# Altium schematic symbol library mcu_stm32.SchLib: 42 symbols (part 1 of 5)
Pins are listed as number, name and electrical type; pins without a type are passive.

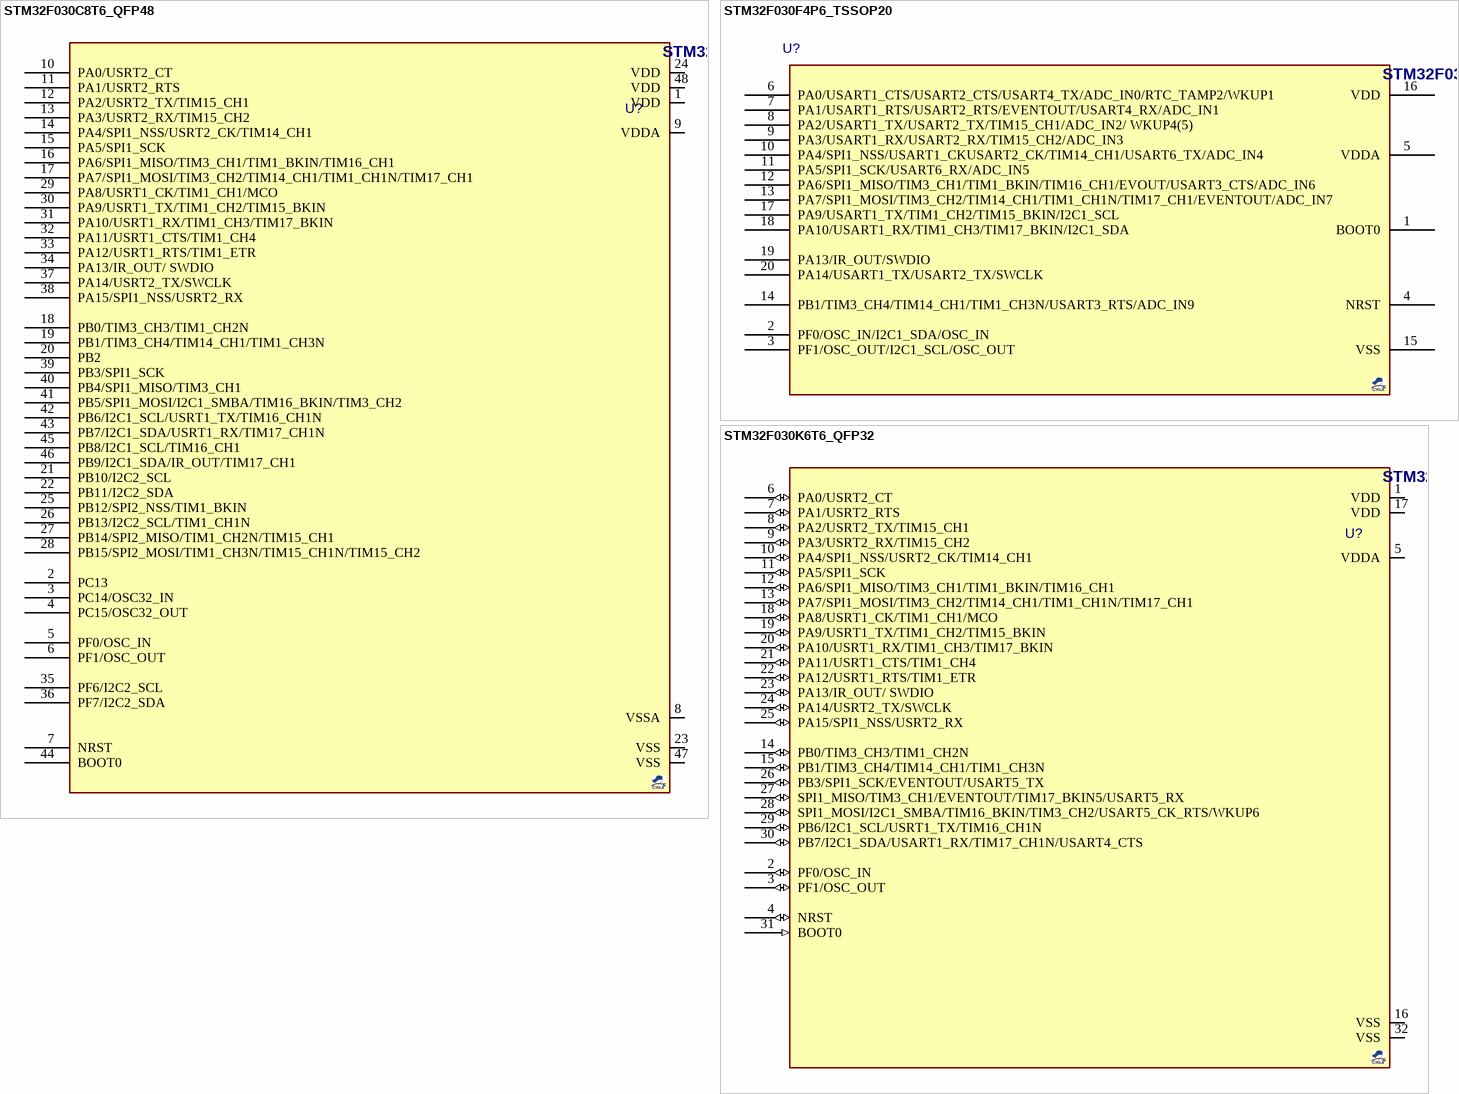
[diagram p0: symbols STM32F030C8T6_QFP48 to STM32F030K6T6_QFP32]

## STM32F030C8T6_QFP48
designator U?, comment STM32F030  (value not drawn)
MCU, STM32 ARM 32-bit, Cortex-M0, 64 KB Flash, 8 KB RAM, 39 I/Os, LQFP-48; MANF: ST; MANF_P#: STM32F030C8T6; PARAM: 64KB FLASH, 8KB SRAM, -40~85oC; PACKAGE: QFP-48; VALUE: STM32F030
footprint QFG50_48 (LQFP48, PQFF, PQFG, TSQFP, 48-Leads, Body 7.00x7.00mm, Pitch 0.50mm)
pins: 1 VDD "Digital power supply", 2 PC13 "PC13/RTC_TAMP1,RTC_TS,RTC_OUT,WKUP2", 3 PC14/OSC32_IN "PC14-OSC32_IN(PC14)/OSC32_IN", 4 PC15/OSC32_OUT "PC15-OSC32_OUT(PC15)/OSC32_OUT", 5 PF0/OSC_IN "PF0-OSC_IN(PF0)/OSC_IN", 6 PF1/OSC_OUT "PF1-OSC_OUT(PF1)/OSC_OUT", 7 NRST "Device reset input / internal reset output (active low)", 8 VSSA "Analog ground", 9 VDDA "Analog power supply", 10 PA0/USRT2_CT "PA0/USART2_CTS/ADC_IN0,RTC_TAMP2,WKUP1", 11 PA1/USRT2_RTS "PA1/USART2_RTS,EVENTOUT/ADC_IN1", 12 PA2/USRT2_TX/TIM15_CH1 "PA2/USART2_TX,TIM15_CH1/ADC_IN2", 13 PA3/USRT2_RX/TIM15_CH2 "PA3/USART2_RX,TIM15_CH2/ADC_IN3", 14 PA4/SPI1_NSS/USRT2_CK/TIM14_CH1 "PA4/SPI1_NSS/USART2_CK,TIM14_CH1/ADC_IN4", 15 PA5/SPI1_SCK "PA5/SPI1_SCK/ADC_IN5", 16 PA6/SPI1_MISO/TIM3_CH1/TIM1_BKIN/TIM16_CH1 "PA6/SPI1_MISO,TIM3_CH1,TIM1_BKIN,TIM16_CH1,EVENTOUT/ADC_IN6", 17 PA7/SPI1_MOSI/TIM3_CH2/TIM14_CH1/TIM1_CH1N/TIM17_CH1, 18 PB0/TIM3_CH3/TIM1_CH2N "PB0/TIM3_CH3,TIM1_CH2N,EVENTOUT/ADC_IN8", 19 PB1/TIM3_CH4/TIM14_CH1/TIM1_CH3N "PB1/TIM3_CH4,TIM14_CH1,TIM1_CH3N/ADC_IN9", 20 PB2, 21 PB10/I2C2_SCL, 22 PB11/I2C2_SDA "PB11/I2C2_SDA,EVENTOUT", 23 VSS "Ground", 24 VDD "Digital power supply", 25 PB12/SPI2_NSS/TIM1_BKIN "PB12/SPI2_NSS,TIM1_BKIN,EVENTOUT", 26 PB13/I2C2_SCL/TIM1_CH1N "PB13/SPI2_SCK,TIM1_CH1N", 27 PB14/SPI2_MISO/TIM1_CH2N/TIM15_CH1 "PB14/SPI2_MISO,TIM1_CH2N,TIM15_CH1", 28 PB15/SPI2_MOSI/TIM1_CH3N/TIM15_CH1N/TIM15_CH2 "PB15/SPI2_MOSI,TIM1_CH3N,TIM15_CH1N,TIM15_CH2/RTC_REFIN", 29 PA8/USRT1_CK/TIM1_CH1/MCO "PA8/USART1_CK,TIM1_CH1,EVENTOUT,MCO", 30 PA9/USRT1_TX/TIM1_CH2/TIM15_BKIN "PA9/USART1_TX,TIM1_CH2,TIM15_BKIN", 31 PA10/USRT1_RX/TIM1_CH3/TIM17_BKIN "PA10/USART1_RX,TIM1_CH3,TIM17_BKIN", 32 PA11/USRT1_CTS/TIM1_CH4 "PA11/USART1_CTS,TIM1_CH4,EVENTOUT", 33 PA12/USRT1_RTS/TIM1_ETR "PA12/USART1_RTS,TIM1_ETR,EVENTOUT", 34 PA13/IR_OUT/ SWDIO "PA13(SWDIO)/IR_OUT,SWDIO", 35 PF6/I2C2_SCL, 36 PF7/I2C2_SDA, 37 PA14/USRT2_TX/SWCLK "PA14(SWCLK)/USART2_TX,SWCLK", 38 PA15/SPI1_NSS/USRT2_RX "PA15/SPI1_NSS,USART2_RX,EVENTOUT", 39 PB3/SPI1_SCK "PB3/SPI1_SCK,EVENTOUT", 40 PB4/SPI1_MISO/TIM3_CH1 "PB4/SPI1_MISO,TIM3_CH1,EVENTOUT", 41 PB5/SPI1_MOSI/I2C1_SMBA/TIM16_BKIN/TIM3_CH2 "PB5/SPI1_MOSI,I2C1_SMBA,TIM16_BKIN,TIM3_CH2", 42 PB6/I2C1_SCL/USRT1_TX/TIM16_CH1N "PB6/I2C1_SCL,USART1_TX,TIM16_CH1N", 43 PB7/I2C1_SDA/USRT1_RX/TIM17_CH1N "PB7/I2C1_SDA,USART1_RX,TIM17_CH1N", 44 BOOT0 "Boot memory selection", 45 PB8/I2C1_SCL/TIM16_CH1 "PB8/I2C1_SCL,TIM16_CH1", 46 PB9/I2C1_SDA/IR_OUT/TIM17_CH1 "PB9/I2C1_SDA,IR_OUT,TIM17_CH1,EVENTOUT", 47 VSS "Ground", 48 VDD "Digital power supply"
text: STM32F030 LQFP-48

## STM32F030F4P6_TSSOP20
designator U?, comment STM32F030  (value not drawn)
MCU, STM32 ARM 32-bit, Cortex-M0, 16KB FLASH, 4KB SRAM; DESC: I2C, SPI, UART; MANF: ST; MANF_P#: STM32F030F4P6; PARAM2: 2.4~3.6VCC, 48MHz, 1X12Bit ADC; PARAM: 16KB FLASH, 4KB SRAM, -40~85oC; PRICE: 1$; VALUE: STM32F030; PACKAGE: TSSOP-20
footprint SOG65_20 (PW TSSOP (TI), MO-153-AC (JEDEC), 20Lead, pitch: 0.65mm, 6.5x4.4x1.2mm)
pins: 1 BOOT0, 2 PF0/OSC_IN/I2C1_SDA/OSC_IN, 3 PF1/OSC_OUT/I2C1_SCL/OSC_OUT, 4 NRST, 5 VDDA, 6 PA0/USART1_CTS/USART2_CTS/USART4_TX/ADC_IN0/RTC_TAMP2/WKUP1, 7 PA1/USART1_RTS/USART2_RTS/EVENTOUT/USART4_RX/ADC_IN1, 8 PA2/USART1_TX/USART2_TX/TIM15_CH1/ADC_IN2/ WKUP4(5), 9 PA3/USART1_RX/USART2_RX/TIM15_CH2/ADC_IN3, 10 PA4/SPI1_NSS/USART1_CKUSART2_CK/TIM14_CH1/USART6_TX/ADC_IN4, 11 PA5/SPI1_SCK/USART6_RX/ADC_IN5, 12 PA6/SPI1_MISO/TIM3_CH1/TIM1_BKIN/TIM16_CH1/EVOUT/USART3_CTS/ADC_IN6, 13 PA7/SPI1_MOSI/TIM3_CH2/TIM14_CH1/TIM1_CH1N/TIM17_CH1/EVENTOUT/ADC_IN7, 14 PB1/TIM3_CH4/TIM14_CH1/TIM1_CH3N/USART3_RTS/ADC_IN9, 15 VSS, 16 VDD, 17 PA9/USART1_TX/TIM1_CH2/TIM15_BKIN/I2C1_SCL, 18 PA10/USART1_RX/TIM1_CH3/TIM17_BKIN/I2C1_SDA, 19 PA13/IR_OUT/SWDIO, 20 PA14/USART1_TX/USART2_TX/SWCLK
text: STM32F030 TSSOP-20

## STM32F030K6T6_QFP32
designator U?, comment STM32F030  (value not drawn)
MCU, STM32 ARM 32-bit, Cortex-M0, 64 KB Flash, 8 KB RAM; MANF: ST; MANF_P#: STM32F030K6T6; PARAM: 64KB FLASH, 8KB SRAM, -40~85oC; VALUE: STM32F030; PACKAGE: QFP-32
footprint QFG80_32 (TQFP32, A32 (Cypress), GP32 (Zarlink), MS-026ABA(JEDEC), 7X7mm, 0.8mm)
pins: 1 VDD (power), 2 PF0/OSC_IN (io), 3 PF1/OSC_OUT (io), 4 NRST (io), 5 VDDA (power), 6 PA0/USRT2_CT (io), 7 PA1/USRT2_RTS (io), 8 PA2/USRT2_TX/TIM15_CH1 (io), 9 PA3/USRT2_RX/TIM15_CH2 (io), 10 PA4/SPI1_NSS/USRT2_CK/TIM14_CH1 (io), 11 PA5/SPI1_SCK (io), 12 PA6/SPI1_MISO/TIM3_CH1/TIM1_BKIN/TIM16_CH1 (io), 13 PA7/SPI1_MOSI/TIM3_CH2/TIM14_CH1/TIM1_CH1N/TIM17_CH1 (io), 14 PB0/TIM3_CH3/TIM1_CH2N (io), 15 PB1/TIM3_CH4/TIM14_CH1/TIM1_CH3N (io), 16 VSS (power), 17 VDD (power), 18 PA8/USRT1_CK/TIM1_CH1/MCO (io), 19 PA9/USRT1_TX/TIM1_CH2/TIM15_BKIN (io), 20 PA10/USRT1_RX/TIM1_CH3/TIM17_BKIN (io), 21 PA11/USRT1_CTS/TIM1_CH4 (io), 22 PA12/USRT1_RTS/TIM1_ETR (io), 23 PA13/IR_OUT/ SWDIO (io), 24 PA14/USRT2_TX/SWCLK (io), 25 PA15/SPI1_NSS/USRT2_RX (io), 26 PB3/SPI1_SCK/EVENTOUT/USART5_TX (io), 27 SPI1_MISO/TIM3_CH1/EVENTOUT/TIM17_BKIN5/USART5_RX (io), 28 SPI1_MOSI/I2C1_SMBA/TIM16_BKIN/TIM3_CH2/USART5_CK_RTS/WKUP6 (io), 29 PB6/I2C1_SCL/USRT1_TX/TIM16_CH1N (io), 30 PB7/I2C1_SDA/USART1_RX/TIM17_CH1N/USART4_CTS (io), 31 BOOT0 (in), 32 VSS (power)
text: STM32F030 LQFP-32

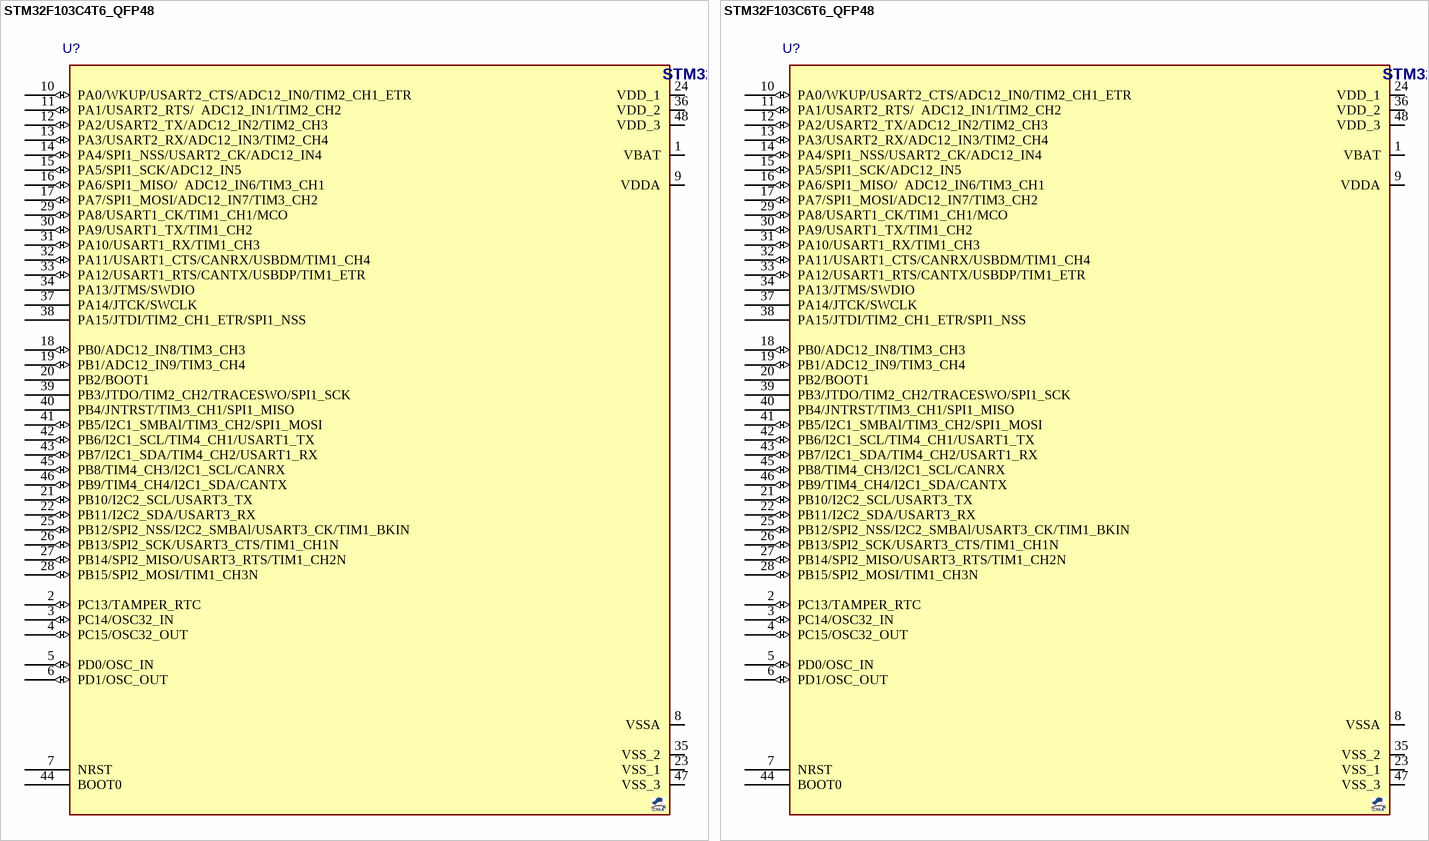
[diagram p1: symbols STM32F103C4T6_QFP48 to STM32F103C6T6_QFP48]

## STM32F103C4T6_QFP48
designator U?, comment STM32F103  (value not drawn)
MCU, STM32 ARM 32-bit, Cortex M3, 16KB FLASH, 6KB SRAM; DESC: CAN, I2C, SPI, USART, USB; MANF: ST; MANF_P#: STM32F103C4T6A; PARAM2: 2~3.6VCC, 72MHz, 2X12Bit ADC; PARAM: 16KB FLASH, 6KB SRAM, -40~85oC; PRICE: 4$; VALUE: STM32F103; PACKAGE: QFP-48
footprint QFG50_48 (LQFP48, PQFF, PQFG, TSQFP, 48-Leads, Body 7.00x7.00mm, Pitch 0.50mm)
pins: 1 VBAT, 2 PC13/TAMPER_RTC (io) "PC13-TAMPER-RTC/PC13/TAMPER-RTC", 3 PC14/OSC32_IN (io) "PC14-OSC32_IN/PC14/OSC32_IN", 4 PC15/OSC32_OUT (io) "PC15-OSC32_OUT/PC15/OSC32_OUT", 5 PD0/OSC_IN (io) "PD0/OSC_IN/CAN_RX", 6 PD1/OSC_OUT (io) "PD1/OSC_OUT/CAN_TX", 7 NRST, 8 VSSA, 9 VDDA, 10 PA0/WKUP/USART2_CTS/ADC12_IN0/TIM2_CH1_ETR (io) "PA0-WKUP/PA0/WKUP/USART2_CTS/ADC12_IN0/TIM2_CH1_ETR", 11 PA1/USART2_RTS/  ADC12_IN1/TIM2_CH2 (io) "PA1/USART2_RTS/ADC12_IN1/TIM2_CH2", 12 PA2/USART2_TX/ADC12_IN2/TIM2_CH3 (io), 13 PA3/USART2_RX/ADC12_IN3/TIM2_CH4 (io), 14 PA4/SPI1_NSS/USART2_CK/ADC12_IN4 (io), 15 PA5/SPI1_SCK/ADC12_IN5 (io), 16 PA6/SPI1_MISO/  ADC12_IN6/TIM3_CH1 (io) "PA6/SPI1_MISO/ADC12_IN6/TIM3_CH1/TIM1_BKIN", 17 PA7/SPI1_MOSI/ADC12_IN7/TIM3_CH2 (io) "PA7/SPI1_MOSI/ADC12_IN7/TIM3_CH2/TIM1_CH1N", 18 PB0/ADC12_IN8/TIM3_CH3 (io) "PB0/ADC12_IN8/TIM3_CH3/TIM1_CH2N", 19 PB1/ADC12_IN9/TIM3_CH4 (io) "PB1/ADC12_IN9/TIM3_CH4/TIM1_CH3N", 20 PB2/BOOT1, 21 PB10/I2C2_SCL/USART3_TX (io) "PB10/I2C2_SCL/USART3_TX/TIM2_CH3", 22 PB11/I2C2_SDA/USART3_RX (io) "PB11/I2C2_SDA/USART3_RX/TIM2_CH4", 23 VSS_1, 24 VDD_1, 25 PB12/SPI2_NSS/I2C2_SMBAl/USART3_CK/TIM1_BKIN (io), 26 PB13/SPI2_SCK/USART3_CTS/TIM1_CH1N (io), 27 PB14/SPI2_MISO/USART3_RTS/TIM1_CH2N (io), 28 PB15/SPI2_MOSI/TIM1_CH3N (io), 29 PA8/USART1_CK/TIM1_CH1/MCO (io), 30 PA9/USART1_TX/TIM1_CH2 (io), 31 PA10/USART1_RX/TIM1_CH3 (io), 32 PA11/USART1_CTS/CANRX/USBDM/TIM1_CH4 (io), 33 PA12/USART1_RTS/CANTX/USBDP/TIM1_ETR (io), 34 PA13/JTMS/SWDIO, 35 VSS_2, 36 VDD_2, 37 PA14/JTCK/SWCLK, 38 PA15/JTDI/TIM2_CH1_ETR/SPI1_NSS, 39 PB3/JTDO/TIM2_CH2/TRACESWO/SPI1_SCK, 40 PB4/JNTRST/TIM3_CH1/SPI1_MISO, 41 PB5/I2C1_SMBAl/TIM3_CH2/SPI1_MOSI (io) "PB5/I2C1_SMBAI/TIM3_CH2/SPI1_MOSI", 42 PB6/I2C1_SCL/TIM4_CH1/USART1_TX (io), 43 PB7/I2C1_SDA/TIM4_CH2/USART1_RX (io), 44 BOOT0, 45 PB8/TIM4_CH3/I2C1_SCL/CANRX (io), 46 PB9/TIM4_CH4/I2C1_SDA/CANTX (io), 47 VSS_3, 48 VDD_3

## STM32F103C6T6_QFP48
designator U?, comment STM32F103  (value not drawn)
MCU, STM32 ARM 32-bit, Cortex M3, 32KB FLASH, 10KB SRAM; DESC: CAN, I2C, SPI, USART, USB; MANF: ST; MANF_P#: STM32F103C6T6A; PARAM2: 2~3.6VCC, 72MHz, 2X12Bit ADC; PARAM: 32KB FLASH, 10KB SRAM, -40~85oC; PRICE: 4$; VALUE: STM32F103; PACKAGE: QFP-48
footprint QFG50_48 (LQFP48, PQFF, PQFG, TSQFP, 48-Leads, Body 7.00x7.00mm, Pitch 0.50mm)
pins: 1 VBAT, 2 PC13/TAMPER_RTC (io) "PC13-TAMPER-RTC/PC13/TAMPER-RTC", 3 PC14/OSC32_IN (io) "PC14-OSC32_IN/PC14/OSC32_IN", 4 PC15/OSC32_OUT (io) "PC15-OSC32_OUT/PC15/OSC32_OUT", 5 PD0/OSC_IN (io) "PD0/OSC_IN/CAN_RX", 6 PD1/OSC_OUT (io) "PD1/OSC_OUT/CAN_TX", 7 NRST, 8 VSSA, 9 VDDA, 10 PA0/WKUP/USART2_CTS/ADC12_IN0/TIM2_CH1_ETR (io) "PA0-WKUP/PA0/WKUP/USART2_CTS/ADC12_IN0/TIM2_CH1_ETR", 11 PA1/USART2_RTS/  ADC12_IN1/TIM2_CH2 (io) "PA1/USART2_RTS/ADC12_IN1/TIM2_CH2", 12 PA2/USART2_TX/ADC12_IN2/TIM2_CH3 (io), 13 PA3/USART2_RX/ADC12_IN3/TIM2_CH4 (io), 14 PA4/SPI1_NSS/USART2_CK/ADC12_IN4 (io), 15 PA5/SPI1_SCK/ADC12_IN5 (io), 16 PA6/SPI1_MISO/  ADC12_IN6/TIM3_CH1 (io) "PA6/SPI1_MISO/ADC12_IN6/TIM3_CH1/TIM1_BKIN", 17 PA7/SPI1_MOSI/ADC12_IN7/TIM3_CH2 (io) "PA7/SPI1_MOSI/ADC12_IN7/TIM3_CH2/TIM1_CH1N", 18 PB0/ADC12_IN8/TIM3_CH3 (io) "PB0/ADC12_IN8/TIM3_CH3/TIM1_CH2N", 19 PB1/ADC12_IN9/TIM3_CH4 (io) "PB1/ADC12_IN9/TIM3_CH4/TIM1_CH3N", 20 PB2/BOOT1, 21 PB10/I2C2_SCL/USART3_TX (io) "PB10/I2C2_SCL/USART3_TX/TIM2_CH3", 22 PB11/I2C2_SDA/USART3_RX (io) "PB11/I2C2_SDA/USART3_RX/TIM2_CH4", 23 VSS_1, 24 VDD_1, 25 PB12/SPI2_NSS/I2C2_SMBAl/USART3_CK/TIM1_BKIN (io), 26 PB13/SPI2_SCK/USART3_CTS/TIM1_CH1N (io), 27 PB14/SPI2_MISO/USART3_RTS/TIM1_CH2N (io), 28 PB15/SPI2_MOSI/TIM1_CH3N (io), 29 PA8/USART1_CK/TIM1_CH1/MCO (io), 30 PA9/USART1_TX/TIM1_CH2 (io), 31 PA10/USART1_RX/TIM1_CH3 (io), 32 PA11/USART1_CTS/CANRX/USBDM/TIM1_CH4 (io), 33 PA12/USART1_RTS/CANTX/USBDP/TIM1_ETR (io), 34 PA13/JTMS/SWDIO, 35 VSS_2, 36 VDD_2, 37 PA14/JTCK/SWCLK, 38 PA15/JTDI/TIM2_CH1_ETR/SPI1_NSS, 39 PB3/JTDO/TIM2_CH2/TRACESWO/SPI1_SCK, 40 PB4/JNTRST/TIM3_CH1/SPI1_MISO, 41 PB5/I2C1_SMBAl/TIM3_CH2/SPI1_MOSI (io) "PB5/I2C1_SMBAI/TIM3_CH2/SPI1_MOSI", 42 PB6/I2C1_SCL/TIM4_CH1/USART1_TX (io), 43 PB7/I2C1_SDA/TIM4_CH2/USART1_RX (io), 44 BOOT0, 45 PB8/TIM4_CH3/I2C1_SCL/CANRX (io), 46 PB9/TIM4_CH4/I2C1_SDA/CANTX (io), 47 VSS_3, 48 VDD_3

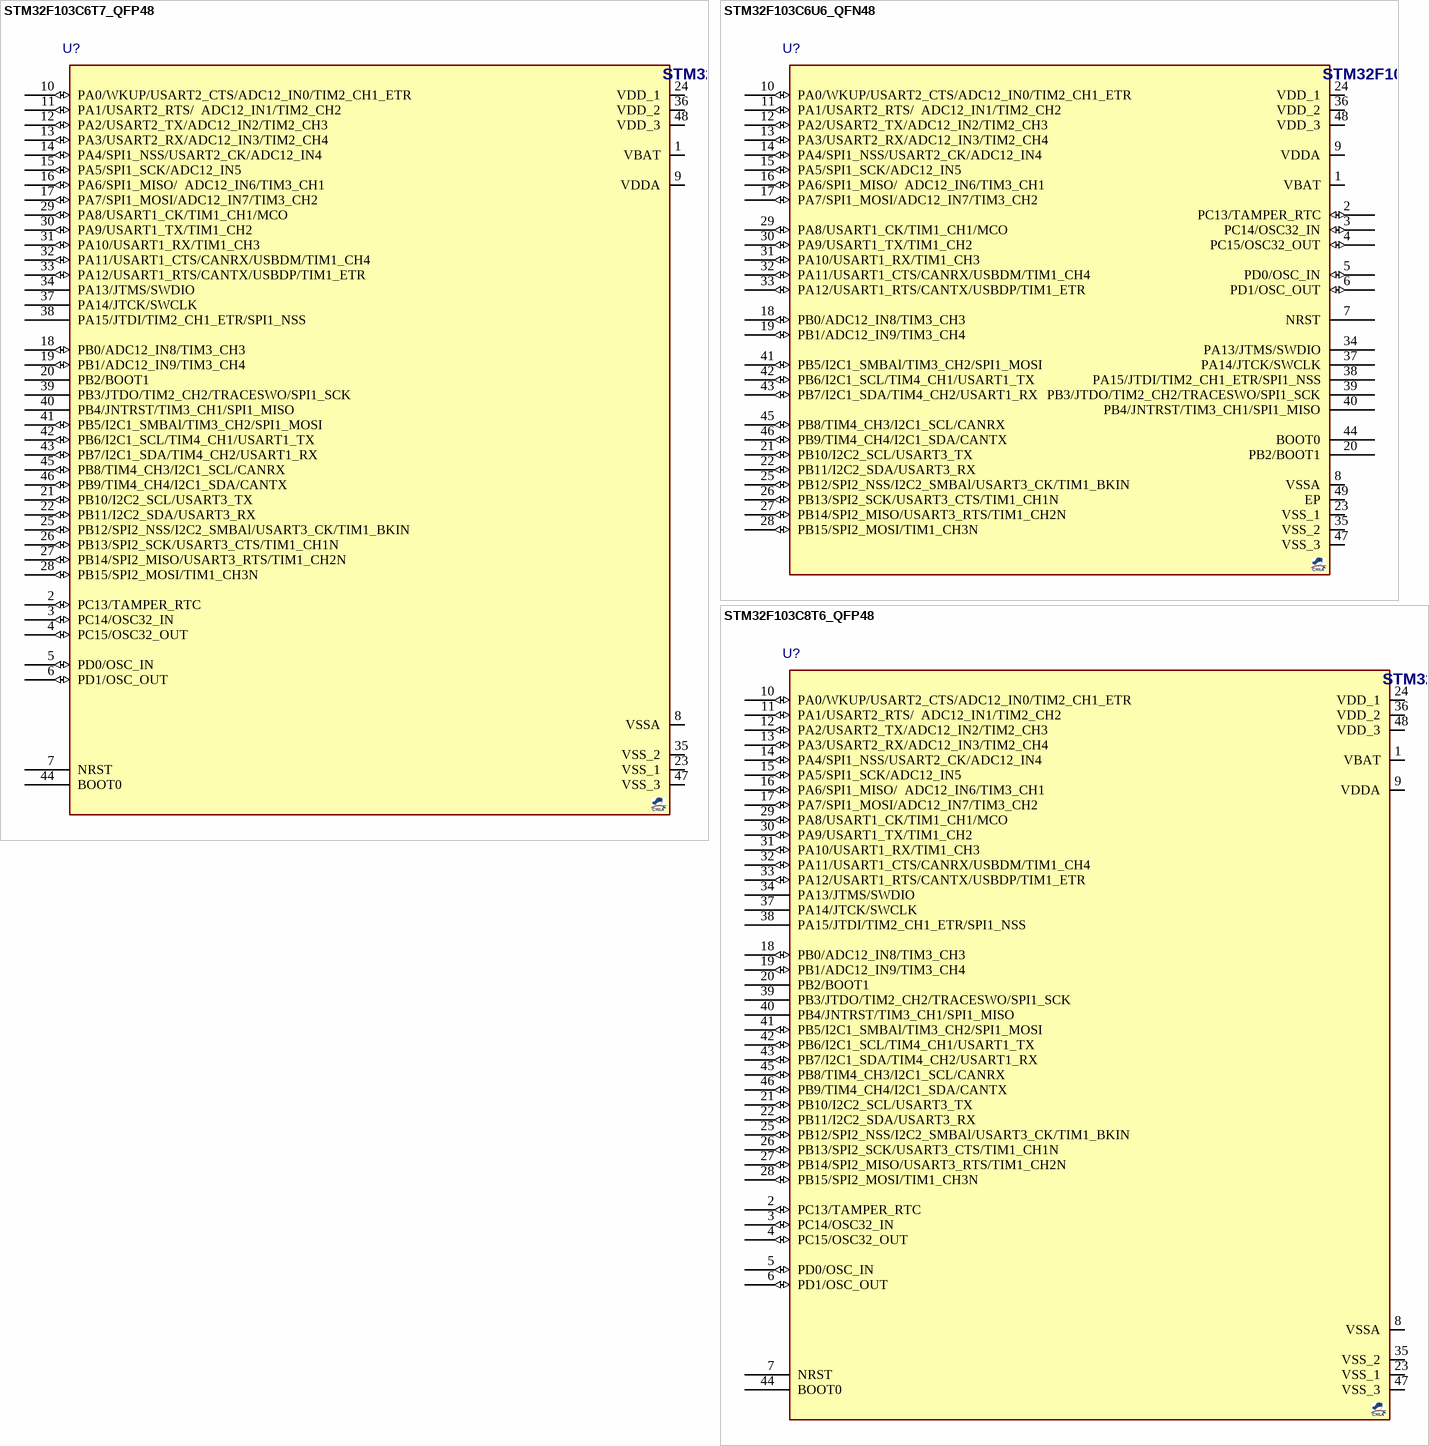
[diagram p2: symbols STM32F103C6T7_QFP48 to STM32F103C8T6_QFP48]

## STM32F103C6T7_QFP48
designator U?, comment STM32F103  (value not drawn)
MCU, STM32 ARM 32-bit, Cortex M3, 32KB FLASH, 10KB SRAM; DESC: CAN, I2C, SPI, USART, USB; MANF: ST; MANF_P#: STM32F103C6T7A; PARAM2: 2~3.6VCC, 72MHz, 2X12Bit ADC; PARAM: 32KB FLASH, 10KB SRAM, -40~105oC; PRICE: 6$; VALUE: STM32F103; PACKAGE: QFP-48
footprint QFG50_48 (LQFP48, PQFF, PQFG, TSQFP, 48-Leads, Body 7.00x7.00mm, Pitch 0.50mm)
pins: 1 VBAT, 2 PC13/TAMPER_RTC (io) "PC13-TAMPER-RTC/PC13/TAMPER-RTC", 3 PC14/OSC32_IN (io) "PC14-OSC32_IN/PC14/OSC32_IN", 4 PC15/OSC32_OUT (io) "PC15-OSC32_OUT/PC15/OSC32_OUT", 5 PD0/OSC_IN (io) "PD0/OSC_IN/CAN_RX", 6 PD1/OSC_OUT (io) "PD1/OSC_OUT/CAN_TX", 7 NRST, 8 VSSA, 9 VDDA, 10 PA0/WKUP/USART2_CTS/ADC12_IN0/TIM2_CH1_ETR (io) "PA0-WKUP/PA0/WKUP/USART2_CTS/ADC12_IN0/TIM2_CH1_ETR", 11 PA1/USART2_RTS/  ADC12_IN1/TIM2_CH2 (io) "PA1/USART2_RTS/ADC12_IN1/TIM2_CH2", 12 PA2/USART2_TX/ADC12_IN2/TIM2_CH3 (io), 13 PA3/USART2_RX/ADC12_IN3/TIM2_CH4 (io), 14 PA4/SPI1_NSS/USART2_CK/ADC12_IN4 (io), 15 PA5/SPI1_SCK/ADC12_IN5 (io), 16 PA6/SPI1_MISO/  ADC12_IN6/TIM3_CH1 (io) "PA6/SPI1_MISO/ADC12_IN6/TIM3_CH1/TIM1_BKIN", 17 PA7/SPI1_MOSI/ADC12_IN7/TIM3_CH2 (io) "PA7/SPI1_MOSI/ADC12_IN7/TIM3_CH2/TIM1_CH1N", 18 PB0/ADC12_IN8/TIM3_CH3 (io) "PB0/ADC12_IN8/TIM3_CH3/TIM1_CH2N", 19 PB1/ADC12_IN9/TIM3_CH4 (io) "PB1/ADC12_IN9/TIM3_CH4/TIM1_CH3N", 20 PB2/BOOT1, 21 PB10/I2C2_SCL/USART3_TX (io) "PB10/I2C2_SCL/USART3_TX/TIM2_CH3", 22 PB11/I2C2_SDA/USART3_RX (io) "PB11/I2C2_SDA/USART3_RX/TIM2_CH4", 23 VSS_1, 24 VDD_1, 25 PB12/SPI2_NSS/I2C2_SMBAl/USART3_CK/TIM1_BKIN (io), 26 PB13/SPI2_SCK/USART3_CTS/TIM1_CH1N (io), 27 PB14/SPI2_MISO/USART3_RTS/TIM1_CH2N (io), 28 PB15/SPI2_MOSI/TIM1_CH3N (io), 29 PA8/USART1_CK/TIM1_CH1/MCO (io), 30 PA9/USART1_TX/TIM1_CH2 (io), 31 PA10/USART1_RX/TIM1_CH3 (io), 32 PA11/USART1_CTS/CANRX/USBDM/TIM1_CH4 (io), 33 PA12/USART1_RTS/CANTX/USBDP/TIM1_ETR (io), 34 PA13/JTMS/SWDIO, 35 VSS_2, 36 VDD_2, 37 PA14/JTCK/SWCLK, 38 PA15/JTDI/TIM2_CH1_ETR/SPI1_NSS, 39 PB3/JTDO/TIM2_CH2/TRACESWO/SPI1_SCK, 40 PB4/JNTRST/TIM3_CH1/SPI1_MISO, 41 PB5/I2C1_SMBAl/TIM3_CH2/SPI1_MOSI (io) "PB5/I2C1_SMBAI/TIM3_CH2/SPI1_MOSI", 42 PB6/I2C1_SCL/TIM4_CH1/USART1_TX (io), 43 PB7/I2C1_SDA/TIM4_CH2/USART1_RX (io), 44 BOOT0, 45 PB8/TIM4_CH3/I2C1_SCL/CANRX (io), 46 PB9/TIM4_CH4/I2C1_SDA/CANTX (io), 47 VSS_3, 48 VDD_3

## STM32F103C6U6_QFN48
designator U?, comment STM32F103  (value not drawn)
MCU, STM32 ARM 32-bit, Cortex M3, 16KB FLASH, 6KB SRAM; DESC: CAN, I2C, SPI, USART, USB; MANF: ST; MANF_P#: STM32F103C6U6; PARAM2: 2~3.6VCC, 72MHz, 2X12Bit ADC; PARAM: 16KB FLASH, 6KB SRAM, -40~85oC; PRICE: 2$; VALUE: STM32F103; PACKAGE: QFN-48
footprint QFN50_48T (CP-48 (Analog Device),, MO-220-VKKD-2(JEDEC), RGZ S-PQFP-N48, S-PWQFN-N48(TI), 7X7mm, 0.5mm)
pins: 1 VBAT, 2 PC13/TAMPER_RTC (io) "PC13-TAMPER-RTC/PC13/TAMPER-RTC", 3 PC14/OSC32_IN (io) "PC14-OSC32_IN/PC14/OSC32_IN", 4 PC15/OSC32_OUT (io) "PC15-OSC32_OUT/PC15/OSC32_OUT", 5 PD0/OSC_IN (io) "PD0/OSC_IN/CAN_RX", 6 PD1/OSC_OUT (io) "PD1/OSC_OUT/CAN_TX", 7 NRST, 8 VSSA, 9 VDDA, 10 PA0/WKUP/USART2_CTS/ADC12_IN0/TIM2_CH1_ETR (io) "PA0-WKUP/PA0/WKUP/USART2_CTS/ADC12_IN0/TIM2_CH1_ETR", 11 PA1/USART2_RTS/  ADC12_IN1/TIM2_CH2 (io) "PA1/USART2_RTS/ADC12_IN1/TIM2_CH2", 12 PA2/USART2_TX/ADC12_IN2/TIM2_CH3 (io), 13 PA3/USART2_RX/ADC12_IN3/TIM2_CH4 (io), 14 PA4/SPI1_NSS/USART2_CK/ADC12_IN4 (io), 15 PA5/SPI1_SCK/ADC12_IN5 (io), 16 PA6/SPI1_MISO/  ADC12_IN6/TIM3_CH1 (io) "PA6/SPI1_MISO/ADC12_IN6/TIM3_CH1/TIM1_BKIN", 17 PA7/SPI1_MOSI/ADC12_IN7/TIM3_CH2 (io) "PA7/SPI1_MOSI/ADC12_IN7/TIM3_CH2/TIM1_CH1N", 18 PB0/ADC12_IN8/TIM3_CH3 (io) "PB0/ADC12_IN8/TIM3_CH3/TIM1_CH2N", 19 PB1/ADC12_IN9/TIM3_CH4 (io) "PB1/ADC12_IN9/TIM3_CH4/TIM1_CH3N", 20 PB2/BOOT1, 21 PB10/I2C2_SCL/USART3_TX (io) "PB10/I2C2_SCL/USART3_TX/TIM2_CH3", 22 PB11/I2C2_SDA/USART3_RX (io) "PB11/I2C2_SDA/USART3_RX/TIM2_CH4", 23 VSS_1, 24 VDD_1, 25 PB12/SPI2_NSS/I2C2_SMBAl/USART3_CK/TIM1_BKIN (io), 26 PB13/SPI2_SCK/USART3_CTS/TIM1_CH1N (io), 27 PB14/SPI2_MISO/USART3_RTS/TIM1_CH2N (io), 28 PB15/SPI2_MOSI/TIM1_CH3N (io), 29 PA8/USART1_CK/TIM1_CH1/MCO (io), 30 PA9/USART1_TX/TIM1_CH2 (io), 31 PA10/USART1_RX/TIM1_CH3 (io), 32 PA11/USART1_CTS/CANRX/USBDM/TIM1_CH4 (io), 33 PA12/USART1_RTS/CANTX/USBDP/TIM1_ETR (io), 34 PA13/JTMS/SWDIO, 35 VSS_2, 36 VDD_2, 37 PA14/JTCK/SWCLK, 38 PA15/JTDI/TIM2_CH1_ETR/SPI1_NSS, 39 PB3/JTDO/TIM2_CH2/TRACESWO/SPI1_SCK, 40 PB4/JNTRST/TIM3_CH1/SPI1_MISO, 41 PB5/I2C1_SMBAl/TIM3_CH2/SPI1_MOSI (io) "PB5/I2C1_SMBAI/TIM3_CH2/SPI1_MOSI", 42 PB6/I2C1_SCL/TIM4_CH1/USART1_TX (io), 43 PB7/I2C1_SDA/TIM4_CH2/USART1_RX (io), 44 BOOT0, 45 PB8/TIM4_CH3/I2C1_SCL/CANRX (io), 46 PB9/TIM4_CH4/I2C1_SDA/CANTX (io), 47 VSS_3, 48 VDD_3, 49 EP

## STM32F103C8T6_QFP48
designator U?, comment STM32F103  (value not drawn)
MCU, STM32 ARM 32-bit, Cortex M3, 64KB FLASH, 20KB SRAM; DESC: CAN, I2C, SPI, USART, USB; MANF: ST; MANF_P#: STM32F103C8T6; PARAM2: 2~3.6VCC, 72MHz, 2X12Bit ADC; PARAM: 64KB FLASH, 20KB SRAM, -40~85oC; PRICE: 6$; VALUE: STM32F103; PACKAGE: QFP-48
footprint QFG50_48 (LQFP48, PQFF, PQFG, TSQFP, 48-Leads, Body 7.00x7.00mm, Pitch 0.50mm)
pins: 1 VBAT, 2 PC13/TAMPER_RTC (io) "PC13-TAMPER-RTC/PC13/TAMPER-RTC", 3 PC14/OSC32_IN (io) "PC14-OSC32_IN/PC14/OSC32_IN", 4 PC15/OSC32_OUT (io) "PC15-OSC32_OUT/PC15/OSC32_OUT", 5 PD0/OSC_IN (io) "PD0/OSC_IN/CAN_RX", 6 PD1/OSC_OUT (io) "PD1/OSC_OUT/CAN_TX", 7 NRST, 8 VSSA, 9 VDDA, 10 PA0/WKUP/USART2_CTS/ADC12_IN0/TIM2_CH1_ETR (io) "PA0-WKUP/PA0/WKUP/USART2_CTS/ADC12_IN0/TIM2_CH1_ETR", 11 PA1/USART2_RTS/  ADC12_IN1/TIM2_CH2 (io) "PA1/USART2_RTS/ADC12_IN1/TIM2_CH2", 12 PA2/USART2_TX/ADC12_IN2/TIM2_CH3 (io), 13 PA3/USART2_RX/ADC12_IN3/TIM2_CH4 (io), 14 PA4/SPI1_NSS/USART2_CK/ADC12_IN4 (io), 15 PA5/SPI1_SCK/ADC12_IN5 (io), 16 PA6/SPI1_MISO/  ADC12_IN6/TIM3_CH1 (io) "PA6/SPI1_MISO/ADC12_IN6/TIM3_CH1/TIM1_BKIN", 17 PA7/SPI1_MOSI/ADC12_IN7/TIM3_CH2 (io) "PA7/SPI1_MOSI/ADC12_IN7/TIM3_CH2/TIM1_CH1N", 18 PB0/ADC12_IN8/TIM3_CH3 (io) "PB0/ADC12_IN8/TIM3_CH3/TIM1_CH2N", 19 PB1/ADC12_IN9/TIM3_CH4 (io) "PB1/ADC12_IN9/TIM3_CH4/TIM1_CH3N", 20 PB2/BOOT1, 21 PB10/I2C2_SCL/USART3_TX (io) "PB10/I2C2_SCL/USART3_TX/TIM2_CH3", 22 PB11/I2C2_SDA/USART3_RX (io) "PB11/I2C2_SDA/USART3_RX/TIM2_CH4", 23 VSS_1, 24 VDD_1, 25 PB12/SPI2_NSS/I2C2_SMBAl/USART3_CK/TIM1_BKIN (io), 26 PB13/SPI2_SCK/USART3_CTS/TIM1_CH1N (io), 27 PB14/SPI2_MISO/USART3_RTS/TIM1_CH2N (io), 28 PB15/SPI2_MOSI/TIM1_CH3N (io), 29 PA8/USART1_CK/TIM1_CH1/MCO (io), 30 PA9/USART1_TX/TIM1_CH2 (io), 31 PA10/USART1_RX/TIM1_CH3 (io), 32 PA11/USART1_CTS/CANRX/USBDM/TIM1_CH4 (io), 33 PA12/USART1_RTS/CANTX/USBDP/TIM1_ETR (io), 34 PA13/JTMS/SWDIO, 35 VSS_2, 36 VDD_2, 37 PA14/JTCK/SWCLK, 38 PA15/JTDI/TIM2_CH1_ETR/SPI1_NSS, 39 PB3/JTDO/TIM2_CH2/TRACESWO/SPI1_SCK, 40 PB4/JNTRST/TIM3_CH1/SPI1_MISO, 41 PB5/I2C1_SMBAl/TIM3_CH2/SPI1_MOSI (io) "PB5/I2C1_SMBAI/TIM3_CH2/SPI1_MOSI", 42 PB6/I2C1_SCL/TIM4_CH1/USART1_TX (io), 43 PB7/I2C1_SDA/TIM4_CH2/USART1_RX (io), 44 BOOT0, 45 PB8/TIM4_CH3/I2C1_SCL/CANRX (io), 46 PB9/TIM4_CH4/I2C1_SDA/CANTX (io), 47 VSS_3, 48 VDD_3

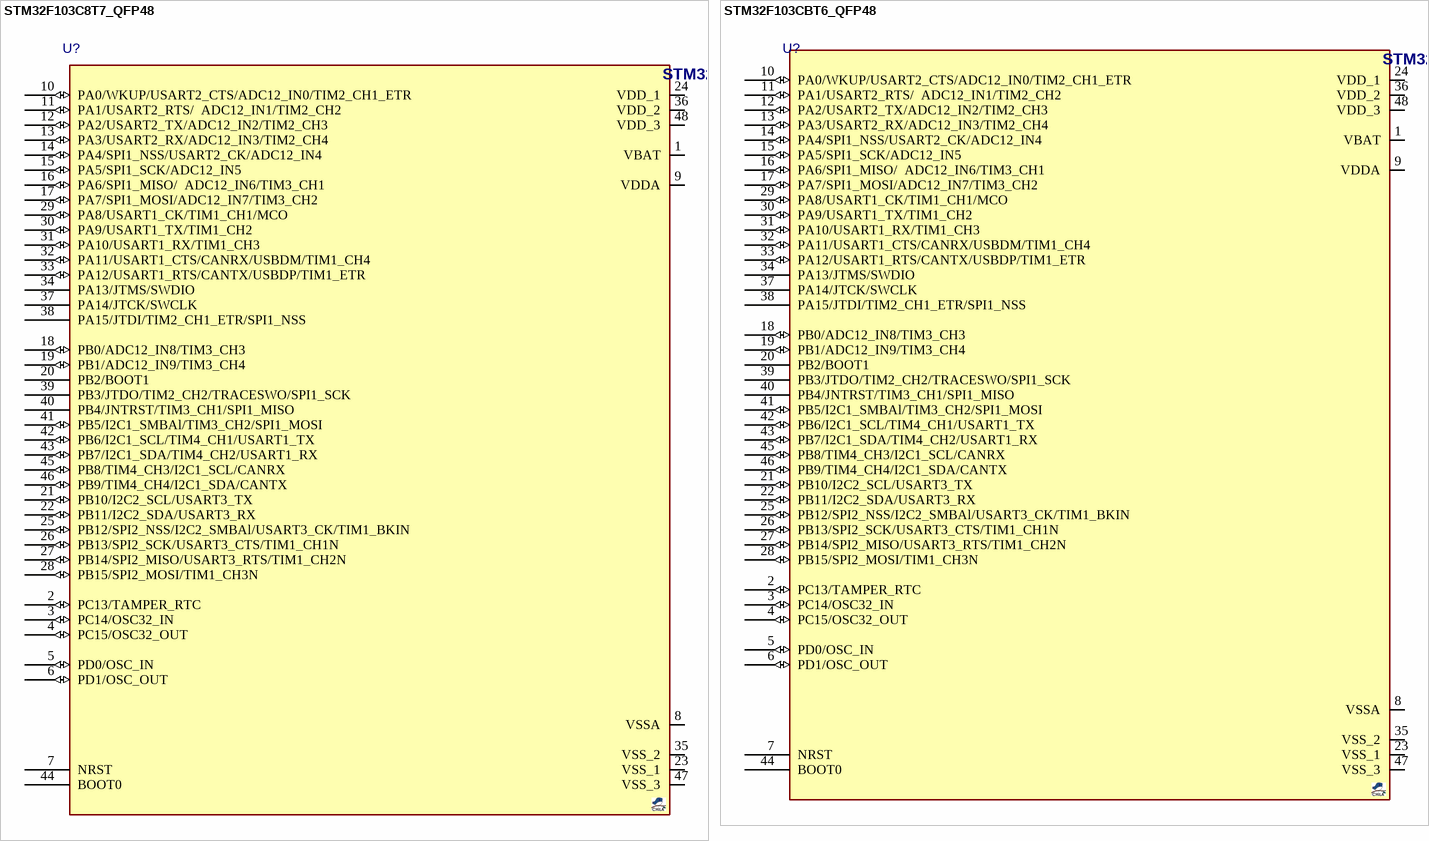
[diagram p3: symbols STM32F103C8T7_QFP48 to STM32F103CBT6_QFP48]

## STM32F103C8T7_QFP48
designator U?, comment STM32F103  (value not drawn)
MCU, STM32 ARM 32-bit, Cortex M3, 64KB FLASH, 20KB SRAM; DESC: CAN, I2C, SPI, USART, USB; MANF: ST; MANF_P#: STM32F103C8T7; PARAM2: 2~3.6VCC, 72MHz, 2X12Bit ADC; PARAM: 64KB FLASH, 20KB SRAM, -40~105oC; PRICE: 6$; VALUE: STM32F103; PACKAGE: QFP-48
footprint QFG50_48 (LQFP48, PQFF, PQFG, TSQFP, 48-Leads, Body 7.00x7.00mm, Pitch 0.50mm)
pins: 1 VBAT, 2 PC13/TAMPER_RTC (io) "PC13-TAMPER-RTC/PC13/TAMPER-RTC", 3 PC14/OSC32_IN (io) "PC14-OSC32_IN/PC14/OSC32_IN", 4 PC15/OSC32_OUT (io) "PC15-OSC32_OUT/PC15/OSC32_OUT", 5 PD0/OSC_IN (io) "PD0/OSC_IN/CAN_RX", 6 PD1/OSC_OUT (io) "PD1/OSC_OUT/CAN_TX", 7 NRST, 8 VSSA, 9 VDDA, 10 PA0/WKUP/USART2_CTS/ADC12_IN0/TIM2_CH1_ETR (io) "PA0-WKUP/PA0/WKUP/USART2_CTS/ADC12_IN0/TIM2_CH1_ETR", 11 PA1/USART2_RTS/  ADC12_IN1/TIM2_CH2 (io) "PA1/USART2_RTS/ADC12_IN1/TIM2_CH2", 12 PA2/USART2_TX/ADC12_IN2/TIM2_CH3 (io), 13 PA3/USART2_RX/ADC12_IN3/TIM2_CH4 (io), 14 PA4/SPI1_NSS/USART2_CK/ADC12_IN4 (io), 15 PA5/SPI1_SCK/ADC12_IN5 (io), 16 PA6/SPI1_MISO/  ADC12_IN6/TIM3_CH1 (io) "PA6/SPI1_MISO/ADC12_IN6/TIM3_CH1/TIM1_BKIN", 17 PA7/SPI1_MOSI/ADC12_IN7/TIM3_CH2 (io) "PA7/SPI1_MOSI/ADC12_IN7/TIM3_CH2/TIM1_CH1N", 18 PB0/ADC12_IN8/TIM3_CH3 (io) "PB0/ADC12_IN8/TIM3_CH3/TIM1_CH2N", 19 PB1/ADC12_IN9/TIM3_CH4 (io) "PB1/ADC12_IN9/TIM3_CH4/TIM1_CH3N", 20 PB2/BOOT1, 21 PB10/I2C2_SCL/USART3_TX (io) "PB10/I2C2_SCL/USART3_TX/TIM2_CH3", 22 PB11/I2C2_SDA/USART3_RX (io) "PB11/I2C2_SDA/USART3_RX/TIM2_CH4", 23 VSS_1, 24 VDD_1, 25 PB12/SPI2_NSS/I2C2_SMBAl/USART3_CK/TIM1_BKIN (io), 26 PB13/SPI2_SCK/USART3_CTS/TIM1_CH1N (io), 27 PB14/SPI2_MISO/USART3_RTS/TIM1_CH2N (io), 28 PB15/SPI2_MOSI/TIM1_CH3N (io), 29 PA8/USART1_CK/TIM1_CH1/MCO (io), 30 PA9/USART1_TX/TIM1_CH2 (io), 31 PA10/USART1_RX/TIM1_CH3 (io), 32 PA11/USART1_CTS/CANRX/USBDM/TIM1_CH4 (io), 33 PA12/USART1_RTS/CANTX/USBDP/TIM1_ETR (io), 34 PA13/JTMS/SWDIO, 35 VSS_2, 36 VDD_2, 37 PA14/JTCK/SWCLK, 38 PA15/JTDI/TIM2_CH1_ETR/SPI1_NSS, 39 PB3/JTDO/TIM2_CH2/TRACESWO/SPI1_SCK, 40 PB4/JNTRST/TIM3_CH1/SPI1_MISO, 41 PB5/I2C1_SMBAl/TIM3_CH2/SPI1_MOSI (io) "PB5/I2C1_SMBAI/TIM3_CH2/SPI1_MOSI", 42 PB6/I2C1_SCL/TIM4_CH1/USART1_TX (io), 43 PB7/I2C1_SDA/TIM4_CH2/USART1_RX (io), 44 BOOT0, 45 PB8/TIM4_CH3/I2C1_SCL/CANRX (io), 46 PB9/TIM4_CH4/I2C1_SDA/CANTX (io), 47 VSS_3, 48 VDD_3

## STM32F103CBT6_QFP48
designator U?, comment STM32F103  (value not drawn)
MCU, STM32 ARM 32-bit, Cortex M3, 128KB FLASH, 20KB SRAM; DESC: CAN, I2C, SPI, USART, USB; MANF: ST; MANF_P#: STM32F103CBT6; PARAM2: 2~3.6VCC, 72MHz, 2X12Bit ADC; PARAM: 128KB FLASH, 20KB SRAM, -40~85oC; PRICE: 7$; VALUE: STM32F103; PACKAGE: QFP-48
footprint QFG50_48 (LQFP48, PQFF, PQFG, TSQFP, 48-Leads, Body 7.00x7.00mm, Pitch 0.50mm)
pins: 1 VBAT, 2 PC13/TAMPER_RTC (io) "PC13-TAMPER-RTC/PC13/TAMPER-RTC", 3 PC14/OSC32_IN (io) "PC14-OSC32_IN/PC14/OSC32_IN", 4 PC15/OSC32_OUT (io) "PC15-OSC32_OUT/PC15/OSC32_OUT", 5 PD0/OSC_IN (io) "PD0/OSC_IN/CAN_RX", 6 PD1/OSC_OUT (io) "PD1/OSC_OUT/CAN_TX", 7 NRST, 8 VSSA, 9 VDDA, 10 PA0/WKUP/USART2_CTS/ADC12_IN0/TIM2_CH1_ETR (io) "PA0-WKUP/PA0/WKUP/USART2_CTS/ADC12_IN0/TIM2_CH1_ETR", 11 PA1/USART2_RTS/  ADC12_IN1/TIM2_CH2 (io) "PA1/USART2_RTS/ADC12_IN1/TIM2_CH2", 12 PA2/USART2_TX/ADC12_IN2/TIM2_CH3 (io), 13 PA3/USART2_RX/ADC12_IN3/TIM2_CH4 (io), 14 PA4/SPI1_NSS/USART2_CK/ADC12_IN4 (io), 15 PA5/SPI1_SCK/ADC12_IN5 (io), 16 PA6/SPI1_MISO/  ADC12_IN6/TIM3_CH1 (io) "PA6/SPI1_MISO/ADC12_IN6/TIM3_CH1/TIM1_BKIN", 17 PA7/SPI1_MOSI/ADC12_IN7/TIM3_CH2 (io) "PA7/SPI1_MOSI/ADC12_IN7/TIM3_CH2/TIM1_CH1N", 18 PB0/ADC12_IN8/TIM3_CH3 (io) "PB0/ADC12_IN8/TIM3_CH3/TIM1_CH2N", 19 PB1/ADC12_IN9/TIM3_CH4 (io) "PB1/ADC12_IN9/TIM3_CH4/TIM1_CH3N", 20 PB2/BOOT1, 21 PB10/I2C2_SCL/USART3_TX (io) "PB10/I2C2_SCL/USART3_TX/TIM2_CH3", 22 PB11/I2C2_SDA/USART3_RX (io) "PB11/I2C2_SDA/USART3_RX/TIM2_CH4", 23 VSS_1, 24 VDD_1, 25 PB12/SPI2_NSS/I2C2_SMBAl/USART3_CK/TIM1_BKIN (io), 26 PB13/SPI2_SCK/USART3_CTS/TIM1_CH1N (io), 27 PB14/SPI2_MISO/USART3_RTS/TIM1_CH2N (io), 28 PB15/SPI2_MOSI/TIM1_CH3N (io), 29 PA8/USART1_CK/TIM1_CH1/MCO (io), 30 PA9/USART1_TX/TIM1_CH2 (io), 31 PA10/USART1_RX/TIM1_CH3 (io), 32 PA11/USART1_CTS/CANRX/USBDM/TIM1_CH4 (io), 33 PA12/USART1_RTS/CANTX/USBDP/TIM1_ETR (io), 34 PA13/JTMS/SWDIO, 35 VSS_2, 36 VDD_2, 37 PA14/JTCK/SWCLK, 38 PA15/JTDI/TIM2_CH1_ETR/SPI1_NSS, 39 PB3/JTDO/TIM2_CH2/TRACESWO/SPI1_SCK, 40 PB4/JNTRST/TIM3_CH1/SPI1_MISO, 41 PB5/I2C1_SMBAl/TIM3_CH2/SPI1_MOSI (io) "PB5/I2C1_SMBAI/TIM3_CH2/SPI1_MOSI", 42 PB6/I2C1_SCL/TIM4_CH1/USART1_TX (io), 43 PB7/I2C1_SDA/TIM4_CH2/USART1_RX (io), 44 BOOT0, 45 PB8/TIM4_CH3/I2C1_SCL/CANRX (io), 46 PB9/TIM4_CH4/I2C1_SDA/CANTX (io), 47 VSS_3, 48 VDD_3

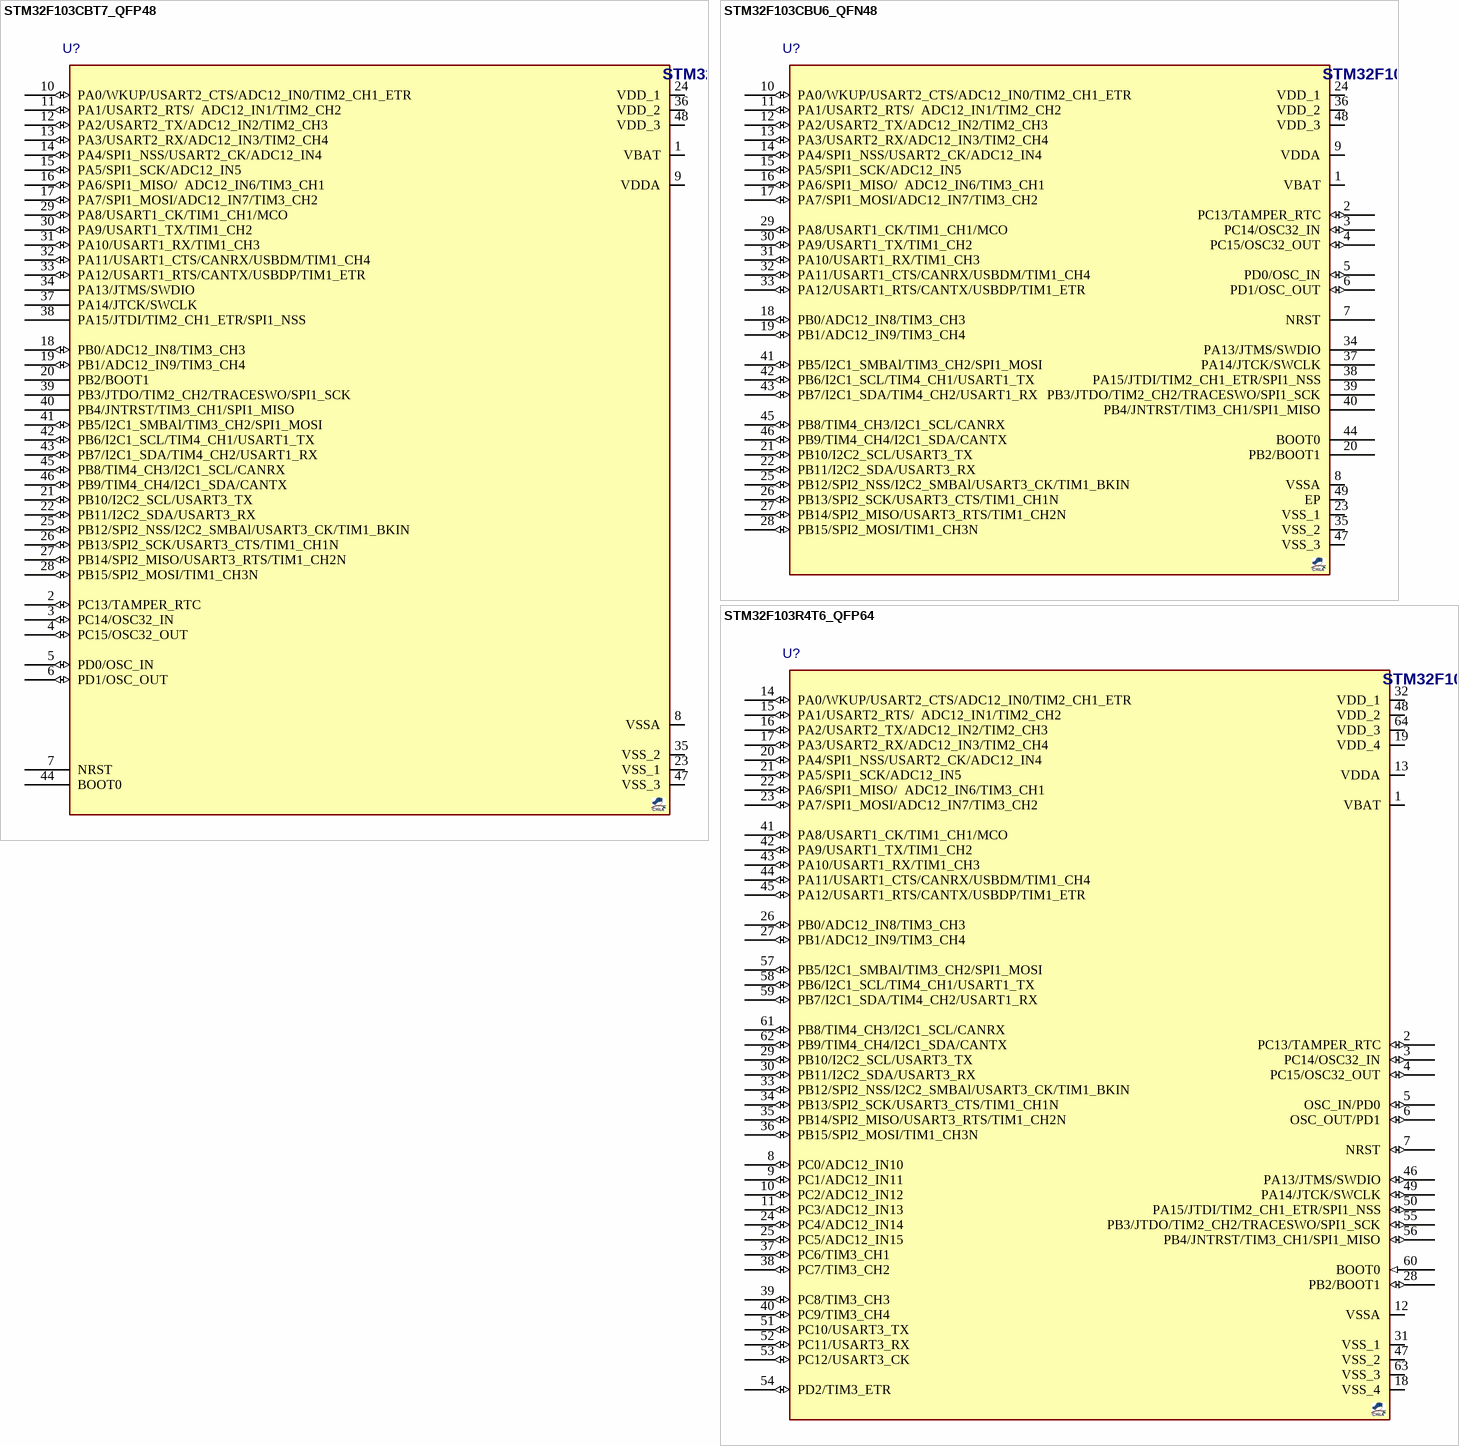
[diagram p4: symbols STM32F103CBT7_QFP48 to STM32F103R4T6_QFP64]

## STM32F103CBT7_QFP48
designator U?, comment STM32F103  (value not drawn)
MCU, STM32 ARM 32-bit, Cortex M3, 128KB FLASH, 20KB SRAM; DESC: CAN, I2C, SPI, USART, USB; MANF: ST; MANF_P#: STM32F103CBT7; PARAM2: 2~3.6VCC, 72MHz, 2X12Bit ADC; PARAM: 128KB FLASH, 20KB SRAM, -40~105oC; PRICE: 6$; VALUE: STM32F103; PACKAGE: QFP-48
footprint QFG50_48 (LQFP48, PQFF, PQFG, TSQFP, 48-Leads, Body 7.00x7.00mm, Pitch 0.50mm)
pins: 1 VBAT, 2 PC13/TAMPER_RTC (io) "PC13-TAMPER-RTC/PC13/TAMPER-RTC", 3 PC14/OSC32_IN (io) "PC14-OSC32_IN/PC14/OSC32_IN", 4 PC15/OSC32_OUT (io) "PC15-OSC32_OUT/PC15/OSC32_OUT", 5 PD0/OSC_IN (io) "PD0/OSC_IN/CAN_RX", 6 PD1/OSC_OUT (io) "PD1/OSC_OUT/CAN_TX", 7 NRST, 8 VSSA, 9 VDDA, 10 PA0/WKUP/USART2_CTS/ADC12_IN0/TIM2_CH1_ETR (io) "PA0-WKUP/PA0/WKUP/USART2_CTS/ADC12_IN0/TIM2_CH1_ETR", 11 PA1/USART2_RTS/  ADC12_IN1/TIM2_CH2 (io) "PA1/USART2_RTS/ADC12_IN1/TIM2_CH2", 12 PA2/USART2_TX/ADC12_IN2/TIM2_CH3 (io), 13 PA3/USART2_RX/ADC12_IN3/TIM2_CH4 (io), 14 PA4/SPI1_NSS/USART2_CK/ADC12_IN4 (io), 15 PA5/SPI1_SCK/ADC12_IN5 (io), 16 PA6/SPI1_MISO/  ADC12_IN6/TIM3_CH1 (io) "PA6/SPI1_MISO/ADC12_IN6/TIM3_CH1/TIM1_BKIN", 17 PA7/SPI1_MOSI/ADC12_IN7/TIM3_CH2 (io) "PA7/SPI1_MOSI/ADC12_IN7/TIM3_CH2/TIM1_CH1N", 18 PB0/ADC12_IN8/TIM3_CH3 (io) "PB0/ADC12_IN8/TIM3_CH3/TIM1_CH2N", 19 PB1/ADC12_IN9/TIM3_CH4 (io) "PB1/ADC12_IN9/TIM3_CH4/TIM1_CH3N", 20 PB2/BOOT1, 21 PB10/I2C2_SCL/USART3_TX (io) "PB10/I2C2_SCL/USART3_TX/TIM2_CH3", 22 PB11/I2C2_SDA/USART3_RX (io) "PB11/I2C2_SDA/USART3_RX/TIM2_CH4", 23 VSS_1, 24 VDD_1, 25 PB12/SPI2_NSS/I2C2_SMBAl/USART3_CK/TIM1_BKIN (io), 26 PB13/SPI2_SCK/USART3_CTS/TIM1_CH1N (io), 27 PB14/SPI2_MISO/USART3_RTS/TIM1_CH2N (io), 28 PB15/SPI2_MOSI/TIM1_CH3N (io), 29 PA8/USART1_CK/TIM1_CH1/MCO (io), 30 PA9/USART1_TX/TIM1_CH2 (io), 31 PA10/USART1_RX/TIM1_CH3 (io), 32 PA11/USART1_CTS/CANRX/USBDM/TIM1_CH4 (io), 33 PA12/USART1_RTS/CANTX/USBDP/TIM1_ETR (io), 34 PA13/JTMS/SWDIO, 35 VSS_2, 36 VDD_2, 37 PA14/JTCK/SWCLK, 38 PA15/JTDI/TIM2_CH1_ETR/SPI1_NSS, 39 PB3/JTDO/TIM2_CH2/TRACESWO/SPI1_SCK, 40 PB4/JNTRST/TIM3_CH1/SPI1_MISO, 41 PB5/I2C1_SMBAl/TIM3_CH2/SPI1_MOSI (io) "PB5/I2C1_SMBAI/TIM3_CH2/SPI1_MOSI", 42 PB6/I2C1_SCL/TIM4_CH1/USART1_TX (io), 43 PB7/I2C1_SDA/TIM4_CH2/USART1_RX (io), 44 BOOT0, 45 PB8/TIM4_CH3/I2C1_SCL/CANRX (io), 46 PB9/TIM4_CH4/I2C1_SDA/CANTX (io), 47 VSS_3, 48 VDD_3

## STM32F103CBU6_QFN48
designator U?, comment STM32F103  (value not drawn)
MCU, STM32 ARM 32-bit, Cortex M3, 128KB FLASH, 20KB SRAM; DESC: CAN, I2C, SPI, USART, USB; MANF: ST; MANF_P#: STM32F103CBU6; PARAM2: 2~3.6VCC, 72MHz, 2X12Bit ADC; PARAM: 128KB FLASH, 20KB SRAM, -40~85oC; PRICE: 7$; VALUE: STM32F103; PACKAGE: QFN-48
footprint QFN50_48T (CP-48 (Analog Device),, MO-220-VKKD-2(JEDEC), RGZ S-PQFP-N48, S-PWQFN-N48(TI), 7X7mm, 0.5mm)
pins: 1 VBAT, 2 PC13/TAMPER_RTC (io) "PC13-TAMPER-RTC/PC13/TAMPER-RTC", 3 PC14/OSC32_IN (io) "PC14-OSC32_IN/PC14/OSC32_IN", 4 PC15/OSC32_OUT (io) "PC15-OSC32_OUT/PC15/OSC32_OUT", 5 PD0/OSC_IN (io) "PD0/OSC_IN/CAN_RX", 6 PD1/OSC_OUT (io) "PD1/OSC_OUT/CAN_TX", 7 NRST, 8 VSSA, 9 VDDA, 10 PA0/WKUP/USART2_CTS/ADC12_IN0/TIM2_CH1_ETR (io) "PA0-WKUP/PA0/WKUP/USART2_CTS/ADC12_IN0/TIM2_CH1_ETR", 11 PA1/USART2_RTS/  ADC12_IN1/TIM2_CH2 (io) "PA1/USART2_RTS/ADC12_IN1/TIM2_CH2", 12 PA2/USART2_TX/ADC12_IN2/TIM2_CH3 (io), 13 PA3/USART2_RX/ADC12_IN3/TIM2_CH4 (io), 14 PA4/SPI1_NSS/USART2_CK/ADC12_IN4 (io), 15 PA5/SPI1_SCK/ADC12_IN5 (io), 16 PA6/SPI1_MISO/  ADC12_IN6/TIM3_CH1 (io) "PA6/SPI1_MISO/ADC12_IN6/TIM3_CH1/TIM1_BKIN", 17 PA7/SPI1_MOSI/ADC12_IN7/TIM3_CH2 (io) "PA7/SPI1_MOSI/ADC12_IN7/TIM3_CH2/TIM1_CH1N", 18 PB0/ADC12_IN8/TIM3_CH3 (io) "PB0/ADC12_IN8/TIM3_CH3/TIM1_CH2N", 19 PB1/ADC12_IN9/TIM3_CH4 (io) "PB1/ADC12_IN9/TIM3_CH4/TIM1_CH3N", 20 PB2/BOOT1, 21 PB10/I2C2_SCL/USART3_TX (io) "PB10/I2C2_SCL/USART3_TX/TIM2_CH3", 22 PB11/I2C2_SDA/USART3_RX (io) "PB11/I2C2_SDA/USART3_RX/TIM2_CH4", 23 VSS_1, 24 VDD_1, 25 PB12/SPI2_NSS/I2C2_SMBAl/USART3_CK/TIM1_BKIN (io), 26 PB13/SPI2_SCK/USART3_CTS/TIM1_CH1N (io), 27 PB14/SPI2_MISO/USART3_RTS/TIM1_CH2N (io), 28 PB15/SPI2_MOSI/TIM1_CH3N (io), 29 PA8/USART1_CK/TIM1_CH1/MCO (io), 30 PA9/USART1_TX/TIM1_CH2 (io), 31 PA10/USART1_RX/TIM1_CH3 (io), 32 PA11/USART1_CTS/CANRX/USBDM/TIM1_CH4 (io), 33 PA12/USART1_RTS/CANTX/USBDP/TIM1_ETR (io), 34 PA13/JTMS/SWDIO, 35 VSS_2, 36 VDD_2, 37 PA14/JTCK/SWCLK, 38 PA15/JTDI/TIM2_CH1_ETR/SPI1_NSS, 39 PB3/JTDO/TIM2_CH2/TRACESWO/SPI1_SCK, 40 PB4/JNTRST/TIM3_CH1/SPI1_MISO, 41 PB5/I2C1_SMBAl/TIM3_CH2/SPI1_MOSI (io) "PB5/I2C1_SMBAI/TIM3_CH2/SPI1_MOSI", 42 PB6/I2C1_SCL/TIM4_CH1/USART1_TX (io), 43 PB7/I2C1_SDA/TIM4_CH2/USART1_RX (io), 44 BOOT0, 45 PB8/TIM4_CH3/I2C1_SCL/CANRX (io), 46 PB9/TIM4_CH4/I2C1_SDA/CANTX (io), 47 VSS_3, 48 VDD_3, 49 EP

## STM32F103R4T6_QFP64
designator U?, comment STM32F103R4T6  (value not drawn)
MCU, STM32 ARM 32-bit, Cortex M3, 16KB FLASH, 6KB SRAM; DESC: USB, CAN, I2C, SPI, UART; MANF: ST; MANF_P#: STM32F103R4T6A; PARAM2: 2~3.6VCC, 72MHz, 2X12Bit ADC; PARAM: 16KB FLASH, 6KB SRAM, -40~85oC; PRICE: 6$; VALUE: STM32F103R4T6; PACKAGE: QFP-64
footprint QFG50_64 (A64 (CYPRESS), TQFP64, LQFP64, VQ44, VQG44, 10X10mm, Pitch: 0.5mm)
pins: 1 VBAT (power), 2 PC13/TAMPER_RTC (io) "PC13-TAMPER-RTC/PC13/TAMPER-RTC", 3 PC14/OSC32_IN (io) "PC14-OSC32_IN/PC14/OSC32_IN", 4 PC15/OSC32_OUT (io) "PC15-OSC32_OUT/PC15/OSC32_OUT", 5 OSC_IN/PD0 (io) "PD0/OSC_IN/CAN_RX", 6 OSC_OUT/PD1 (io) "PD1/OSC_OUT/CAN_TX", 7 NRST (io), 8 PC0/ADC12_IN10 (io) "PC0/ADC123_IN10", 9 PC1/ADC12_IN11 (io) "PC1/ADC123_IN11", 10 PC2/ADC12_IN12 (io) "PC2/ADC123_IN12", 11 PC3/ADC12_IN13 (io) "PC3/ADC123_IN13", 12 VSSA (power), 13 VDDA (power), 14 PA0/WKUP/USART2_CTS/ADC12_IN0/TIM2_CH1_ETR (io) "PA0-WKUP/PA0/WKUP/USART2_CTS/ADC123_IN0/TIM2_CH1_ETR/TIM5_CH1/TIM8_ETR", 15 PA1/USART2_RTS/  ADC12_IN1/TIM2_CH2 (io) "PA1/USART2_RTS/ADC123_IN1/TIM5_CH2/TIM2_CH2", 16 PA2/USART2_TX/ADC12_IN2/TIM2_CH3 (io) "PA2/USART2_TX/TIM5_CH3/ADC123_IN2/TIM2_CH3", 17 PA3/USART2_RX/ADC12_IN3/TIM2_CH4 (io) "PA3/USART2_RX/TIM5_CH4/ADC123_IN3/TIM2_CH4", 18 VSS_4 (power), 19 VDD_4 (power), 20 PA4/SPI1_NSS/USART2_CK/ADC12_IN4 (io) "PA4/SPI1_NSS/USART2_CK/DAC_OUT1/ADC12_IN4", 21 PA5/SPI1_SCK/ADC12_IN5 (io) "PA5/SPI1_SCK/DAC_OUT2/ADC12_IN5", 22 PA6/SPI1_MISO/  ADC12_IN6/TIM3_CH1 (io) "PA6/SPI1_MISO/TIM8_BKIN/ADC12_IN6/TIM3_CH1/TIM1_BKIN", 23 PA7/SPI1_MOSI/ADC12_IN7/TIM3_CH2 (io) "PA7/SPI1_MOSI/TIM8_CH1N/ADC12_IN7/TIM3_CH2/TIM1_CH1N", 24 PC4/ADC12_IN14 (io), 25 PC5/ADC12_IN15 (io), 26 PB0/ADC12_IN8/TIM3_CH3 (io) "PB0/ADC12_IN8/TIM3_CH3/TIM8_CH2N/TIM1_CH2N", 27 PB1/ADC12_IN9/TIM3_CH4 (io) "PB1/ADC12_IN9/TIM3_CH4/TIM8_CH3N/TIM1_CH3N", 28 PB2/BOOT1 (io), 29 PB10/I2C2_SCL/USART3_TX (io) "PB10/I2C2_SCL/USART3_TX/TIM2_CH3", 30 PB11/I2C2_SDA/USART3_RX (io) "PB11/I2C2_SDA/USART3_RX/TIM2_CH4", 31 VSS_1 (power), 32 VDD_1 (power), 33 PB12/SPI2_NSS/I2C2_SMBAl/USART3_CK/TIM1_BKIN (io) "PB12/SPI2_NSS/I2S2_WS/I2C2_SMBA/USART3_CK/TIM1_BKIN", 34 PB13/SPI2_SCK/USART3_CTS/TIM1_CH1N (io) "PB13/SPI2_SCK/I2S2_CK/USART3_CTS/TIM1_CH1N", 35 PB14/SPI2_MISO/USART3_RTS/TIM1_CH2N (io) "PB14/SPI2_MISO/TIM1_CH2N/USART3_RTS", 36 PB15/SPI2_MOSI/TIM1_CH3N (io) "PB15/SPI2_MOSI/I2S2_SD/TIM1_CH3N", 37 PC6/TIM3_CH1 (io) "PC6/I2S2_MCK/TIM8_CH1/SDIO_D6/TIM3_CH1", 38 PC7/TIM3_CH2 (io) "PC7/I2S3_MCK/TIM8_CH2/SDIO_D7/TIM3_CH2", 39 PC8/TIM3_CH3 (io) "PC8/TIM8_CH3/SDIO_D0/TIM3_CH3", 40 PC9/TIM3_CH4 (io) "PC9/TIM8_CH4/SDIO_D1/TIM3_CH4", 41 PA8/USART1_CK/TIM1_CH1/MCO (io), 42 PA9/USART1_TX/TIM1_CH2 (io), 43 PA10/USART1_RX/TIM1_CH3 (io), 44 PA11/USART1_CTS/CANRX/USBDM/TIM1_CH4 (io) "PA11/USART1_CTS/USBDM/CAN_RX/TIM1_CH4", 45 PA12/USART1_RTS/CANTX/USBDP/TIM1_ETR (io) "PA12/USART1_RTS/USBDP/CAN_TX/TIM1_ETR", 46 PA13/JTMS/SWDIO (io) "PA13/JTMS-SWDIO", 47 VSS_2 (power), 48 VDD_2 (power), 49 PA14/JTCK/SWCLK (io) "PA14/JTCK-SWCLK", 50 PA15/JTDI/TIM2_CH1_ETR/SPI1_NSS (io) "PA15/JTDI/SPI3_NSS/I2S3_WS/TIM2_CH1_ETR/SPI1_NSS", 51 PC10/USART3_TX (io) "PC10/UART4_TX/SDIO_D2/USART3_TX", 52 PC11/USART3_RX (io) "PC11/UART4_RX/SDIO_D3/USART3_RX", 53 PC12/USART3_CK (io) "PC12/UART5_TX/SDIO_CK/USART3_CK", 54 PD2/TIM3_ETR (io) "PD2/TIM3_ETR/UART5_RX/SDIO_CMD", 55 PB3/JTDO/TIM2_CH2/TRACESWO/SPI1_SCK (io) "PB3/JTDO/SPI3_SCK/I2S3_CK/TRACESWO/TIM2_CH2/SPI1_SCK", 56 PB4/JNTRST/TIM3_CH1/SPI1_MISO (io) "PB4/NJTRST/SPI3_MISO/TIM3_CH1/SPI1_MISO", 57 PB5/I2C1_SMBAl/TIM3_CH2/SPI1_MOSI (io) "PB5/I2C1_SMBA/SPI3_MOSI/I2S3_SD/TIM3_CH2/SPI1_MOSI", 58 PB6/I2C1_SCL/TIM4_CH1/USART1_TX (io), 59 PB7/I2C1_SDA/TIM4_CH2/USART1_RX (io), 60 BOOT0 (in), 61 PB8/TIM4_CH3/I2C1_SCL/CANRX (io) "PB8/TIM4_CH3/SDIO_D4/I2C1_SCL/CAN_RX", 62 PB9/TIM4_CH4/I2C1_SDA/CANTX (io) "PB9/TIM4_CH4/SDIO_D5/I2C1_SDA/CAN_TX", 63 VSS_3 (power), 64 VDD_3 (power)
text: STM32F103

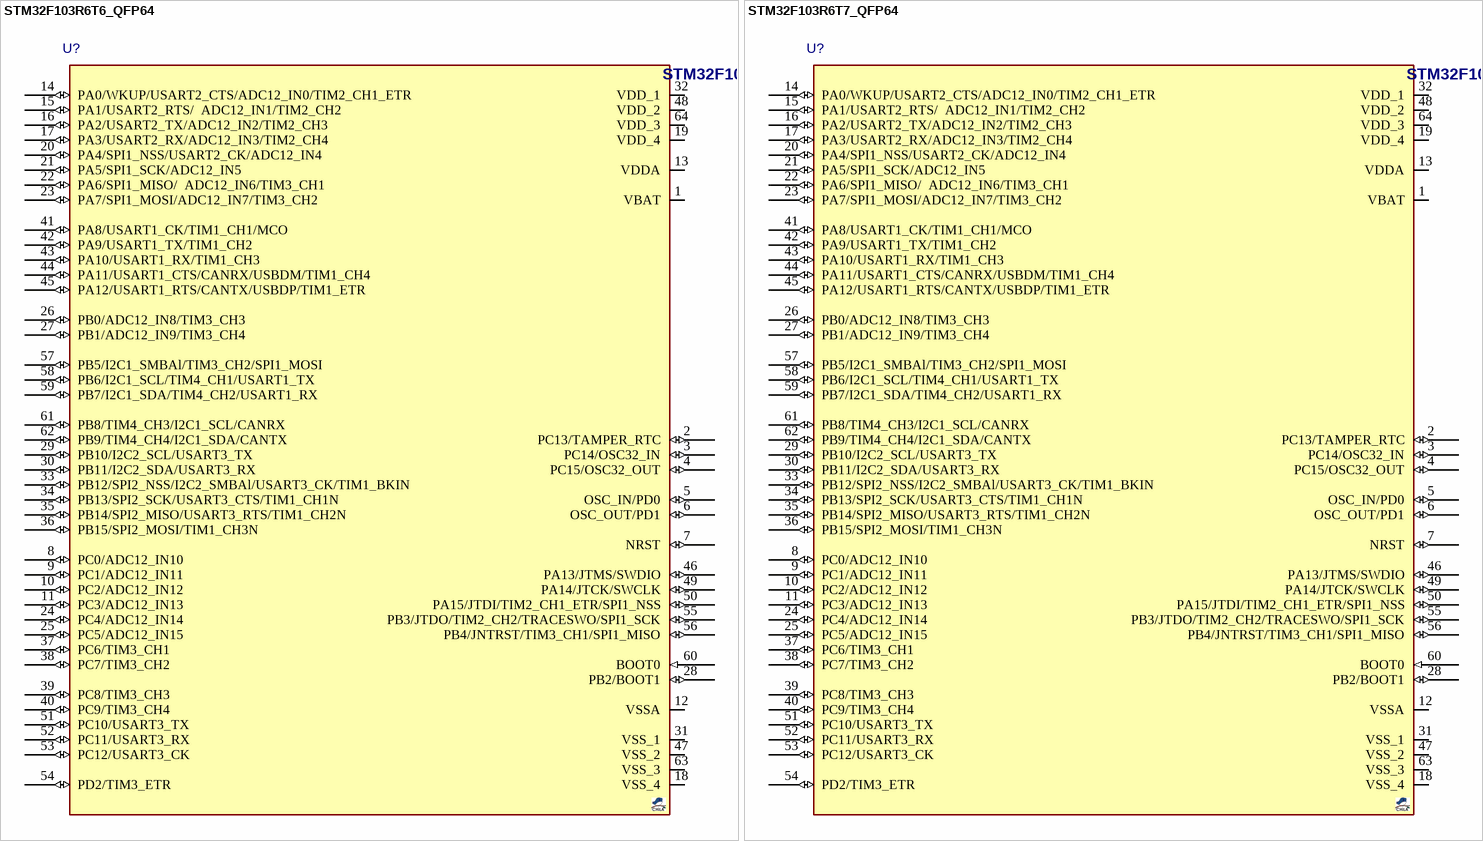
[diagram p5: symbols STM32F103R6T6_QFP64 to STM32F103R6T7_QFP64]

## STM32F103R6T6_QFP64
designator U?, comment STM32F103R6T6  (value not drawn)
MCU, STM32 ARM 32-bit, Cortex M3, 32KB FLASH, 10KB SRAM; DESC: USB, CAN, I2C, SPI, UART; MANF: ST; MANF_P#: STM32F103R6T6A; PARAM2: 2~3.6VCC, 72MHz, 2X12Bit ADC; PARAM: 32KB FLASH, 10KB SRAM, -40~85oC; PRICE: 6$; VALUE: STM32F103R6T6; PACKAGE: QFP-64
footprint QFG50_64 (A64 (CYPRESS), TQFP64, LQFP64, VQ44, VQG44, 10X10mm, Pitch: 0.5mm)
pins: 1 VBAT (power), 2 PC13/TAMPER_RTC (io) "PC13-TAMPER-RTC/PC13/TAMPER-RTC", 3 PC14/OSC32_IN (io) "PC14-OSC32_IN/PC14/OSC32_IN", 4 PC15/OSC32_OUT (io) "PC15-OSC32_OUT/PC15/OSC32_OUT", 5 OSC_IN/PD0 (io) "PD0/OSC_IN/CAN_RX", 6 OSC_OUT/PD1 (io) "PD1/OSC_OUT/CAN_TX", 7 NRST (io), 8 PC0/ADC12_IN10 (io) "PC0/ADC123_IN10", 9 PC1/ADC12_IN11 (io) "PC1/ADC123_IN11", 10 PC2/ADC12_IN12 (io) "PC2/ADC123_IN12", 11 PC3/ADC12_IN13 (io) "PC3/ADC123_IN13", 12 VSSA (power), 13 VDDA (power), 14 PA0/WKUP/USART2_CTS/ADC12_IN0/TIM2_CH1_ETR (io) "PA0-WKUP/PA0/WKUP/USART2_CTS/ADC123_IN0/TIM2_CH1_ETR/TIM5_CH1/TIM8_ETR", 15 PA1/USART2_RTS/  ADC12_IN1/TIM2_CH2 (io) "PA1/USART2_RTS/ADC123_IN1/TIM5_CH2/TIM2_CH2", 16 PA2/USART2_TX/ADC12_IN2/TIM2_CH3 (io) "PA2/USART2_TX/TIM5_CH3/ADC123_IN2/TIM2_CH3", 17 PA3/USART2_RX/ADC12_IN3/TIM2_CH4 (io) "PA3/USART2_RX/TIM5_CH4/ADC123_IN3/TIM2_CH4", 18 VSS_4 (power), 19 VDD_4 (power), 20 PA4/SPI1_NSS/USART2_CK/ADC12_IN4 (io) "PA4/SPI1_NSS/USART2_CK/DAC_OUT1/ADC12_IN4", 21 PA5/SPI1_SCK/ADC12_IN5 (io) "PA5/SPI1_SCK/DAC_OUT2/ADC12_IN5", 22 PA6/SPI1_MISO/  ADC12_IN6/TIM3_CH1 (io) "PA6/SPI1_MISO/TIM8_BKIN/ADC12_IN6/TIM3_CH1/TIM1_BKIN", 23 PA7/SPI1_MOSI/ADC12_IN7/TIM3_CH2 (io) "PA7/SPI1_MOSI/TIM8_CH1N/ADC12_IN7/TIM3_CH2/TIM1_CH1N", 24 PC4/ADC12_IN14 (io), 25 PC5/ADC12_IN15 (io), 26 PB0/ADC12_IN8/TIM3_CH3 (io) "PB0/ADC12_IN8/TIM3_CH3/TIM8_CH2N/TIM1_CH2N", 27 PB1/ADC12_IN9/TIM3_CH4 (io) "PB1/ADC12_IN9/TIM3_CH4/TIM8_CH3N/TIM1_CH3N", 28 PB2/BOOT1 (io), 29 PB10/I2C2_SCL/USART3_TX (io) "PB10/I2C2_SCL/USART3_TX/TIM2_CH3", 30 PB11/I2C2_SDA/USART3_RX (io) "PB11/I2C2_SDA/USART3_RX/TIM2_CH4", 31 VSS_1 (power), 32 VDD_1 (power), 33 PB12/SPI2_NSS/I2C2_SMBAl/USART3_CK/TIM1_BKIN (io) "PB12/SPI2_NSS/I2S2_WS/I2C2_SMBA/USART3_CK/TIM1_BKIN", 34 PB13/SPI2_SCK/USART3_CTS/TIM1_CH1N (io) "PB13/SPI2_SCK/I2S2_CK/USART3_CTS/TIM1_CH1N", 35 PB14/SPI2_MISO/USART3_RTS/TIM1_CH2N (io) "PB14/SPI2_MISO/TIM1_CH2N/USART3_RTS", 36 PB15/SPI2_MOSI/TIM1_CH3N (io) "PB15/SPI2_MOSI/I2S2_SD/TIM1_CH3N", 37 PC6/TIM3_CH1 (io) "PC6/I2S2_MCK/TIM8_CH1/SDIO_D6/TIM3_CH1", 38 PC7/TIM3_CH2 (io) "PC7/I2S3_MCK/TIM8_CH2/SDIO_D7/TIM3_CH2", 39 PC8/TIM3_CH3 (io) "PC8/TIM8_CH3/SDIO_D0/TIM3_CH3", 40 PC9/TIM3_CH4 (io) "PC9/TIM8_CH4/SDIO_D1/TIM3_CH4", 41 PA8/USART1_CK/TIM1_CH1/MCO (io), 42 PA9/USART1_TX/TIM1_CH2 (io), 43 PA10/USART1_RX/TIM1_CH3 (io), 44 PA11/USART1_CTS/CANRX/USBDM/TIM1_CH4 (io) "PA11/USART1_CTS/USBDM/CAN_RX/TIM1_CH4", 45 PA12/USART1_RTS/CANTX/USBDP/TIM1_ETR (io) "PA12/USART1_RTS/USBDP/CAN_TX/TIM1_ETR", 46 PA13/JTMS/SWDIO (io) "PA13/JTMS-SWDIO", 47 VSS_2 (power), 48 VDD_2 (power), 49 PA14/JTCK/SWCLK (io) "PA14/JTCK-SWCLK", 50 PA15/JTDI/TIM2_CH1_ETR/SPI1_NSS (io) "PA15/JTDI/SPI3_NSS/I2S3_WS/TIM2_CH1_ETR/SPI1_NSS", 51 PC10/USART3_TX (io) "PC10/UART4_TX/SDIO_D2/USART3_TX", 52 PC11/USART3_RX (io) "PC11/UART4_RX/SDIO_D3/USART3_RX", 53 PC12/USART3_CK (io) "PC12/UART5_TX/SDIO_CK/USART3_CK", 54 PD2/TIM3_ETR (io) "PD2/TIM3_ETR/UART5_RX/SDIO_CMD", 55 PB3/JTDO/TIM2_CH2/TRACESWO/SPI1_SCK (io) "PB3/JTDO/SPI3_SCK/I2S3_CK/TRACESWO/TIM2_CH2/SPI1_SCK", 56 PB4/JNTRST/TIM3_CH1/SPI1_MISO (io) "PB4/NJTRST/SPI3_MISO/TIM3_CH1/SPI1_MISO", 57 PB5/I2C1_SMBAl/TIM3_CH2/SPI1_MOSI (io) "PB5/I2C1_SMBA/SPI3_MOSI/I2S3_SD/TIM3_CH2/SPI1_MOSI", 58 PB6/I2C1_SCL/TIM4_CH1/USART1_TX (io), 59 PB7/I2C1_SDA/TIM4_CH2/USART1_RX (io), 60 BOOT0 (in), 61 PB8/TIM4_CH3/I2C1_SCL/CANRX (io) "PB8/TIM4_CH3/SDIO_D4/I2C1_SCL/CAN_RX", 62 PB9/TIM4_CH4/I2C1_SDA/CANTX (io) "PB9/TIM4_CH4/SDIO_D5/I2C1_SDA/CAN_TX", 63 VSS_3 (power), 64 VDD_3 (power)
text: STM32F103

## STM32F103R6T7_QFP64
designator U?, comment STM32F103R6T7  (value not drawn)
MCU, STM32 ARM 32-bit, Cortex M3, 32KB FLASH, 10KB SRAM; DESC: USB, CAN, I2C, SPI, UART; MANF: ST; MANF_P#: STM32F103R6T7A; PARAM2: 2~3.6VCC, 72MHz, 2X12Bit ADC; PARAM: 32KB FLASH, 10KB SRAM, -40~105oC; PRICE: 5$; VALUE: STM32F103R6T7; PACKAGE: QFP-64
footprint QFG50_64 (A64 (CYPRESS), TQFP64, LQFP64, VQ44, VQG44, 10X10mm, Pitch: 0.5mm)
pins: 1 VBAT (power), 2 PC13/TAMPER_RTC (io) "PC13-TAMPER-RTC/PC13/TAMPER-RTC", 3 PC14/OSC32_IN (io) "PC14-OSC32_IN/PC14/OSC32_IN", 4 PC15/OSC32_OUT (io) "PC15-OSC32_OUT/PC15/OSC32_OUT", 5 OSC_IN/PD0 (io) "PD0/OSC_IN/CAN_RX", 6 OSC_OUT/PD1 (io) "PD1/OSC_OUT/CAN_TX", 7 NRST (io), 8 PC0/ADC12_IN10 (io) "PC0/ADC123_IN10", 9 PC1/ADC12_IN11 (io) "PC1/ADC123_IN11", 10 PC2/ADC12_IN12 (io) "PC2/ADC123_IN12", 11 PC3/ADC12_IN13 (io) "PC3/ADC123_IN13", 12 VSSA (power), 13 VDDA (power), 14 PA0/WKUP/USART2_CTS/ADC12_IN0/TIM2_CH1_ETR (io) "PA0-WKUP/PA0/WKUP/USART2_CTS/ADC123_IN0/TIM2_CH1_ETR/TIM5_CH1/TIM8_ETR", 15 PA1/USART2_RTS/  ADC12_IN1/TIM2_CH2 (io) "PA1/USART2_RTS/ADC123_IN1/TIM5_CH2/TIM2_CH2", 16 PA2/USART2_TX/ADC12_IN2/TIM2_CH3 (io) "PA2/USART2_TX/TIM5_CH3/ADC123_IN2/TIM2_CH3", 17 PA3/USART2_RX/ADC12_IN3/TIM2_CH4 (io) "PA3/USART2_RX/TIM5_CH4/ADC123_IN3/TIM2_CH4", 18 VSS_4 (power), 19 VDD_4 (power), 20 PA4/SPI1_NSS/USART2_CK/ADC12_IN4 (io) "PA4/SPI1_NSS/USART2_CK/DAC_OUT1/ADC12_IN4", 21 PA5/SPI1_SCK/ADC12_IN5 (io) "PA5/SPI1_SCK/DAC_OUT2/ADC12_IN5", 22 PA6/SPI1_MISO/  ADC12_IN6/TIM3_CH1 (io) "PA6/SPI1_MISO/TIM8_BKIN/ADC12_IN6/TIM3_CH1/TIM1_BKIN", 23 PA7/SPI1_MOSI/ADC12_IN7/TIM3_CH2 (io) "PA7/SPI1_MOSI/TIM8_CH1N/ADC12_IN7/TIM3_CH2/TIM1_CH1N", 24 PC4/ADC12_IN14 (io), 25 PC5/ADC12_IN15 (io), 26 PB0/ADC12_IN8/TIM3_CH3 (io) "PB0/ADC12_IN8/TIM3_CH3/TIM8_CH2N/TIM1_CH2N", 27 PB1/ADC12_IN9/TIM3_CH4 (io) "PB1/ADC12_IN9/TIM3_CH4/TIM8_CH3N/TIM1_CH3N", 28 PB2/BOOT1 (io), 29 PB10/I2C2_SCL/USART3_TX (io) "PB10/I2C2_SCL/USART3_TX/TIM2_CH3", 30 PB11/I2C2_SDA/USART3_RX (io) "PB11/I2C2_SDA/USART3_RX/TIM2_CH4", 31 VSS_1 (power), 32 VDD_1 (power), 33 PB12/SPI2_NSS/I2C2_SMBAl/USART3_CK/TIM1_BKIN (io) "PB12/SPI2_NSS/I2S2_WS/I2C2_SMBA/USART3_CK/TIM1_BKIN", 34 PB13/SPI2_SCK/USART3_CTS/TIM1_CH1N (io) "PB13/SPI2_SCK/I2S2_CK/USART3_CTS/TIM1_CH1N", 35 PB14/SPI2_MISO/USART3_RTS/TIM1_CH2N (io) "PB14/SPI2_MISO/TIM1_CH2N/USART3_RTS", 36 PB15/SPI2_MOSI/TIM1_CH3N (io) "PB15/SPI2_MOSI/I2S2_SD/TIM1_CH3N", 37 PC6/TIM3_CH1 (io) "PC6/I2S2_MCK/TIM8_CH1/SDIO_D6/TIM3_CH1", 38 PC7/TIM3_CH2 (io) "PC7/I2S3_MCK/TIM8_CH2/SDIO_D7/TIM3_CH2", 39 PC8/TIM3_CH3 (io) "PC8/TIM8_CH3/SDIO_D0/TIM3_CH3", 40 PC9/TIM3_CH4 (io) "PC9/TIM8_CH4/SDIO_D1/TIM3_CH4", 41 PA8/USART1_CK/TIM1_CH1/MCO (io), 42 PA9/USART1_TX/TIM1_CH2 (io), 43 PA10/USART1_RX/TIM1_CH3 (io), 44 PA11/USART1_CTS/CANRX/USBDM/TIM1_CH4 (io) "PA11/USART1_CTS/USBDM/CAN_RX/TIM1_CH4", 45 PA12/USART1_RTS/CANTX/USBDP/TIM1_ETR (io) "PA12/USART1_RTS/USBDP/CAN_TX/TIM1_ETR", 46 PA13/JTMS/SWDIO (io) "PA13/JTMS-SWDIO", 47 VSS_2 (power), 48 VDD_2 (power), 49 PA14/JTCK/SWCLK (io) "PA14/JTCK-SWCLK", 50 PA15/JTDI/TIM2_CH1_ETR/SPI1_NSS (io) "PA15/JTDI/SPI3_NSS/I2S3_WS/TIM2_CH1_ETR/SPI1_NSS", 51 PC10/USART3_TX (io) "PC10/UART4_TX/SDIO_D2/USART3_TX", 52 PC11/USART3_RX (io) "PC11/UART4_RX/SDIO_D3/USART3_RX", 53 PC12/USART3_CK (io) "PC12/UART5_TX/SDIO_CK/USART3_CK", 54 PD2/TIM3_ETR (io) "PD2/TIM3_ETR/UART5_RX/SDIO_CMD", 55 PB3/JTDO/TIM2_CH2/TRACESWO/SPI1_SCK (io) "PB3/JTDO/SPI3_SCK/I2S3_CK/TRACESWO/TIM2_CH2/SPI1_SCK", 56 PB4/JNTRST/TIM3_CH1/SPI1_MISO (io) "PB4/NJTRST/SPI3_MISO/TIM3_CH1/SPI1_MISO", 57 PB5/I2C1_SMBAl/TIM3_CH2/SPI1_MOSI (io) "PB5/I2C1_SMBA/SPI3_MOSI/I2S3_SD/TIM3_CH2/SPI1_MOSI", 58 PB6/I2C1_SCL/TIM4_CH1/USART1_TX (io), 59 PB7/I2C1_SDA/TIM4_CH2/USART1_RX (io), 60 BOOT0 (in), 61 PB8/TIM4_CH3/I2C1_SCL/CANRX (io) "PB8/TIM4_CH3/SDIO_D4/I2C1_SCL/CAN_RX", 62 PB9/TIM4_CH4/I2C1_SDA/CANTX (io) "PB9/TIM4_CH4/SDIO_D5/I2C1_SDA/CAN_TX", 63 VSS_3 (power), 64 VDD_3 (power)
text: STM32F103

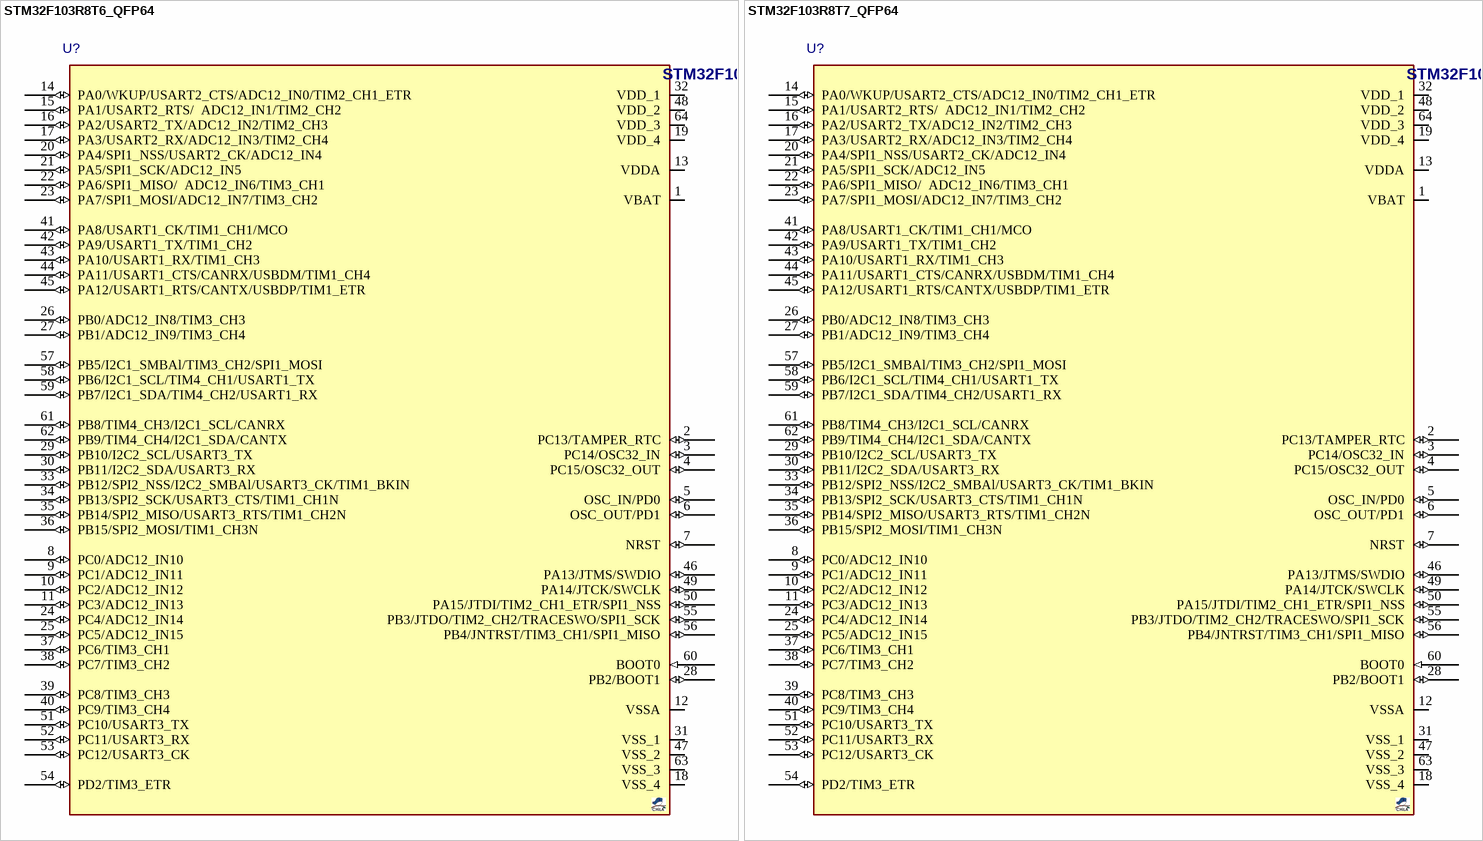
[diagram p6: symbols STM32F103R8T6_QFP64 to STM32F103R8T7_QFP64]

## STM32F103R8T6_QFP64
designator U?, comment STM32F103R8T6  (value not drawn)
MCU, STM32 ARM 32-bit, Cortex M3, 64KB FLASH, 20KB SRAM; DESC: USB, CAN, I2C, SPI, UART; MANF: ST; PARAM2: 2~3.6VCC, 72MHz, 2X12Bit ADC; PARAM: 64KB FLASH, 20KB SRAM, -40~85oC; MANF_P#: STM32F103R8T6; PRICE: 7$; VALUE: STM32F103R8T6; PACKAGE: QFP-64
footprint QFG50_64 (A64 (CYPRESS), TQFP64, LQFP64, VQ44, VQG44, 10X10mm, Pitch: 0.5mm)
pins: 1 VBAT (power), 2 PC13/TAMPER_RTC (io) "PC13-TAMPER-RTC/PC13/TAMPER-RTC", 3 PC14/OSC32_IN (io) "PC14-OSC32_IN/PC14/OSC32_IN", 4 PC15/OSC32_OUT (io) "PC15-OSC32_OUT/PC15/OSC32_OUT", 5 OSC_IN/PD0 (io) "PD0/OSC_IN/CAN_RX", 6 OSC_OUT/PD1 (io) "PD1/OSC_OUT/CAN_TX", 7 NRST (io), 8 PC0/ADC12_IN10 (io) "PC0/ADC123_IN10", 9 PC1/ADC12_IN11 (io) "PC1/ADC123_IN11", 10 PC2/ADC12_IN12 (io) "PC2/ADC123_IN12", 11 PC3/ADC12_IN13 (io) "PC3/ADC123_IN13", 12 VSSA (power), 13 VDDA (power), 14 PA0/WKUP/USART2_CTS/ADC12_IN0/TIM2_CH1_ETR (io) "PA0-WKUP/PA0/WKUP/USART2_CTS/ADC123_IN0/TIM2_CH1_ETR/TIM5_CH1/TIM8_ETR", 15 PA1/USART2_RTS/  ADC12_IN1/TIM2_CH2 (io) "PA1/USART2_RTS/ADC123_IN1/TIM5_CH2/TIM2_CH2", 16 PA2/USART2_TX/ADC12_IN2/TIM2_CH3 (io) "PA2/USART2_TX/TIM5_CH3/ADC123_IN2/TIM2_CH3", 17 PA3/USART2_RX/ADC12_IN3/TIM2_CH4 (io) "PA3/USART2_RX/TIM5_CH4/ADC123_IN3/TIM2_CH4", 18 VSS_4 (power), 19 VDD_4 (power), 20 PA4/SPI1_NSS/USART2_CK/ADC12_IN4 (io) "PA4/SPI1_NSS/USART2_CK/DAC_OUT1/ADC12_IN4", 21 PA5/SPI1_SCK/ADC12_IN5 (io) "PA5/SPI1_SCK/DAC_OUT2/ADC12_IN5", 22 PA6/SPI1_MISO/  ADC12_IN6/TIM3_CH1 (io) "PA6/SPI1_MISO/TIM8_BKIN/ADC12_IN6/TIM3_CH1/TIM1_BKIN", 23 PA7/SPI1_MOSI/ADC12_IN7/TIM3_CH2 (io) "PA7/SPI1_MOSI/TIM8_CH1N/ADC12_IN7/TIM3_CH2/TIM1_CH1N", 24 PC4/ADC12_IN14 (io), 25 PC5/ADC12_IN15 (io), 26 PB0/ADC12_IN8/TIM3_CH3 (io) "PB0/ADC12_IN8/TIM3_CH3/TIM8_CH2N/TIM1_CH2N", 27 PB1/ADC12_IN9/TIM3_CH4 (io) "PB1/ADC12_IN9/TIM3_CH4/TIM8_CH3N/TIM1_CH3N", 28 PB2/BOOT1 (io), 29 PB10/I2C2_SCL/USART3_TX (io) "PB10/I2C2_SCL/USART3_TX/TIM2_CH3", 30 PB11/I2C2_SDA/USART3_RX (io) "PB11/I2C2_SDA/USART3_RX/TIM2_CH4", 31 VSS_1 (power), 32 VDD_1 (power), 33 PB12/SPI2_NSS/I2C2_SMBAl/USART3_CK/TIM1_BKIN (io) "PB12/SPI2_NSS/I2S2_WS/I2C2_SMBA/USART3_CK/TIM1_BKIN", 34 PB13/SPI2_SCK/USART3_CTS/TIM1_CH1N (io) "PB13/SPI2_SCK/I2S2_CK/USART3_CTS/TIM1_CH1N", 35 PB14/SPI2_MISO/USART3_RTS/TIM1_CH2N (io) "PB14/SPI2_MISO/TIM1_CH2N/USART3_RTS", 36 PB15/SPI2_MOSI/TIM1_CH3N (io) "PB15/SPI2_MOSI/I2S2_SD/TIM1_CH3N", 37 PC6/TIM3_CH1 (io) "PC6/I2S2_MCK/TIM8_CH1/SDIO_D6/TIM3_CH1", 38 PC7/TIM3_CH2 (io) "PC7/I2S3_MCK/TIM8_CH2/SDIO_D7/TIM3_CH2", 39 PC8/TIM3_CH3 (io) "PC8/TIM8_CH3/SDIO_D0/TIM3_CH3", 40 PC9/TIM3_CH4 (io) "PC9/TIM8_CH4/SDIO_D1/TIM3_CH4", 41 PA8/USART1_CK/TIM1_CH1/MCO (io), 42 PA9/USART1_TX/TIM1_CH2 (io), 43 PA10/USART1_RX/TIM1_CH3 (io), 44 PA11/USART1_CTS/CANRX/USBDM/TIM1_CH4 (io) "PA11/USART1_CTS/USBDM/CAN_RX/TIM1_CH4", 45 PA12/USART1_RTS/CANTX/USBDP/TIM1_ETR (io) "PA12/USART1_RTS/USBDP/CAN_TX/TIM1_ETR", 46 PA13/JTMS/SWDIO (io) "PA13/JTMS-SWDIO", 47 VSS_2 (power), 48 VDD_2 (power), 49 PA14/JTCK/SWCLK (io) "PA14/JTCK-SWCLK", 50 PA15/JTDI/TIM2_CH1_ETR/SPI1_NSS (io) "PA15/JTDI/SPI3_NSS/I2S3_WS/TIM2_CH1_ETR/SPI1_NSS", 51 PC10/USART3_TX (io) "PC10/UART4_TX/SDIO_D2/USART3_TX", 52 PC11/USART3_RX (io) "PC11/UART4_RX/SDIO_D3/USART3_RX", 53 PC12/USART3_CK (io) "PC12/UART5_TX/SDIO_CK/USART3_CK", 54 PD2/TIM3_ETR (io) "PD2/TIM3_ETR/UART5_RX/SDIO_CMD", 55 PB3/JTDO/TIM2_CH2/TRACESWO/SPI1_SCK (io) "PB3/JTDO/SPI3_SCK/I2S3_CK/TRACESWO/TIM2_CH2/SPI1_SCK", 56 PB4/JNTRST/TIM3_CH1/SPI1_MISO (io) "PB4/NJTRST/SPI3_MISO/TIM3_CH1/SPI1_MISO", 57 PB5/I2C1_SMBAl/TIM3_CH2/SPI1_MOSI (io) "PB5/I2C1_SMBA/SPI3_MOSI/I2S3_SD/TIM3_CH2/SPI1_MOSI", 58 PB6/I2C1_SCL/TIM4_CH1/USART1_TX (io), 59 PB7/I2C1_SDA/TIM4_CH2/USART1_RX (io), 60 BOOT0 (in), 61 PB8/TIM4_CH3/I2C1_SCL/CANRX (io) "PB8/TIM4_CH3/SDIO_D4/I2C1_SCL/CAN_RX", 62 PB9/TIM4_CH4/I2C1_SDA/CANTX (io) "PB9/TIM4_CH4/SDIO_D5/I2C1_SDA/CAN_TX", 63 VSS_3 (power), 64 VDD_3 (power)
text: STM32F103

## STM32F103R8T7_QFP64
designator U?, comment STM32F103R8T7  (value not drawn)
MCU, STM32 ARM 32-bit, Cortex M3, 64KB FLASH, 20KB SRAM; DESC: USB, CAN, I2C, SPI, UART; MANF: ST; PARAM2: 2~3.6VCC, 72MHz, 2X12Bit ADC; PARAM: 64KB FLASH, 20KB SRAM, -40~105oC; MANF_P#: STM32F103R8T7; PRICE: 7$; VALUE: STM32F103R8T7; PACKAGE: QFP-64
footprint QFG50_64 (A64 (CYPRESS), TQFP64, LQFP64, VQ44, VQG44, 10X10mm, Pitch: 0.5mm)
pins: 1 VBAT (power), 2 PC13/TAMPER_RTC (io) "PC13-TAMPER-RTC/PC13/TAMPER-RTC", 3 PC14/OSC32_IN (io) "PC14-OSC32_IN/PC14/OSC32_IN", 4 PC15/OSC32_OUT (io) "PC15-OSC32_OUT/PC15/OSC32_OUT", 5 OSC_IN/PD0 (io) "PD0/OSC_IN/CAN_RX", 6 OSC_OUT/PD1 (io) "PD1/OSC_OUT/CAN_TX", 7 NRST (io), 8 PC0/ADC12_IN10 (io) "PC0/ADC123_IN10", 9 PC1/ADC12_IN11 (io) "PC1/ADC123_IN11", 10 PC2/ADC12_IN12 (io) "PC2/ADC123_IN12", 11 PC3/ADC12_IN13 (io) "PC3/ADC123_IN13", 12 VSSA (power), 13 VDDA (power), 14 PA0/WKUP/USART2_CTS/ADC12_IN0/TIM2_CH1_ETR (io) "PA0-WKUP/PA0/WKUP/USART2_CTS/ADC123_IN0/TIM2_CH1_ETR/TIM5_CH1/TIM8_ETR", 15 PA1/USART2_RTS/  ADC12_IN1/TIM2_CH2 (io) "PA1/USART2_RTS/ADC123_IN1/TIM5_CH2/TIM2_CH2", 16 PA2/USART2_TX/ADC12_IN2/TIM2_CH3 (io) "PA2/USART2_TX/TIM5_CH3/ADC123_IN2/TIM2_CH3", 17 PA3/USART2_RX/ADC12_IN3/TIM2_CH4 (io) "PA3/USART2_RX/TIM5_CH4/ADC123_IN3/TIM2_CH4", 18 VSS_4 (power), 19 VDD_4 (power), 20 PA4/SPI1_NSS/USART2_CK/ADC12_IN4 (io) "PA4/SPI1_NSS/USART2_CK/DAC_OUT1/ADC12_IN4", 21 PA5/SPI1_SCK/ADC12_IN5 (io) "PA5/SPI1_SCK/DAC_OUT2/ADC12_IN5", 22 PA6/SPI1_MISO/  ADC12_IN6/TIM3_CH1 (io) "PA6/SPI1_MISO/TIM8_BKIN/ADC12_IN6/TIM3_CH1/TIM1_BKIN", 23 PA7/SPI1_MOSI/ADC12_IN7/TIM3_CH2 (io) "PA7/SPI1_MOSI/TIM8_CH1N/ADC12_IN7/TIM3_CH2/TIM1_CH1N", 24 PC4/ADC12_IN14 (io), 25 PC5/ADC12_IN15 (io), 26 PB0/ADC12_IN8/TIM3_CH3 (io) "PB0/ADC12_IN8/TIM3_CH3/TIM8_CH2N/TIM1_CH2N", 27 PB1/ADC12_IN9/TIM3_CH4 (io) "PB1/ADC12_IN9/TIM3_CH4/TIM8_CH3N/TIM1_CH3N", 28 PB2/BOOT1 (io), 29 PB10/I2C2_SCL/USART3_TX (io) "PB10/I2C2_SCL/USART3_TX/TIM2_CH3", 30 PB11/I2C2_SDA/USART3_RX (io) "PB11/I2C2_SDA/USART3_RX/TIM2_CH4", 31 VSS_1 (power), 32 VDD_1 (power), 33 PB12/SPI2_NSS/I2C2_SMBAl/USART3_CK/TIM1_BKIN (io) "PB12/SPI2_NSS/I2S2_WS/I2C2_SMBA/USART3_CK/TIM1_BKIN", 34 PB13/SPI2_SCK/USART3_CTS/TIM1_CH1N (io) "PB13/SPI2_SCK/I2S2_CK/USART3_CTS/TIM1_CH1N", 35 PB14/SPI2_MISO/USART3_RTS/TIM1_CH2N (io) "PB14/SPI2_MISO/TIM1_CH2N/USART3_RTS", 36 PB15/SPI2_MOSI/TIM1_CH3N (io) "PB15/SPI2_MOSI/I2S2_SD/TIM1_CH3N", 37 PC6/TIM3_CH1 (io) "PC6/I2S2_MCK/TIM8_CH1/SDIO_D6/TIM3_CH1", 38 PC7/TIM3_CH2 (io) "PC7/I2S3_MCK/TIM8_CH2/SDIO_D7/TIM3_CH2", 39 PC8/TIM3_CH3 (io) "PC8/TIM8_CH3/SDIO_D0/TIM3_CH3", 40 PC9/TIM3_CH4 (io) "PC9/TIM8_CH4/SDIO_D1/TIM3_CH4", 41 PA8/USART1_CK/TIM1_CH1/MCO (io), 42 PA9/USART1_TX/TIM1_CH2 (io), 43 PA10/USART1_RX/TIM1_CH3 (io), 44 PA11/USART1_CTS/CANRX/USBDM/TIM1_CH4 (io) "PA11/USART1_CTS/USBDM/CAN_RX/TIM1_CH4", 45 PA12/USART1_RTS/CANTX/USBDP/TIM1_ETR (io) "PA12/USART1_RTS/USBDP/CAN_TX/TIM1_ETR", 46 PA13/JTMS/SWDIO (io) "PA13/JTMS-SWDIO", 47 VSS_2 (power), 48 VDD_2 (power), 49 PA14/JTCK/SWCLK (io) "PA14/JTCK-SWCLK", 50 PA15/JTDI/TIM2_CH1_ETR/SPI1_NSS (io) "PA15/JTDI/SPI3_NSS/I2S3_WS/TIM2_CH1_ETR/SPI1_NSS", 51 PC10/USART3_TX (io) "PC10/UART4_TX/SDIO_D2/USART3_TX", 52 PC11/USART3_RX (io) "PC11/UART4_RX/SDIO_D3/USART3_RX", 53 PC12/USART3_CK (io) "PC12/UART5_TX/SDIO_CK/USART3_CK", 54 PD2/TIM3_ETR (io) "PD2/TIM3_ETR/UART5_RX/SDIO_CMD", 55 PB3/JTDO/TIM2_CH2/TRACESWO/SPI1_SCK (io) "PB3/JTDO/SPI3_SCK/I2S3_CK/TRACESWO/TIM2_CH2/SPI1_SCK", 56 PB4/JNTRST/TIM3_CH1/SPI1_MISO (io) "PB4/NJTRST/SPI3_MISO/TIM3_CH1/SPI1_MISO", 57 PB5/I2C1_SMBAl/TIM3_CH2/SPI1_MOSI (io) "PB5/I2C1_SMBA/SPI3_MOSI/I2S3_SD/TIM3_CH2/SPI1_MOSI", 58 PB6/I2C1_SCL/TIM4_CH1/USART1_TX (io), 59 PB7/I2C1_SDA/TIM4_CH2/USART1_RX (io), 60 BOOT0 (in), 61 PB8/TIM4_CH3/I2C1_SCL/CANRX (io) "PB8/TIM4_CH3/SDIO_D4/I2C1_SCL/CAN_RX", 62 PB9/TIM4_CH4/I2C1_SDA/CANTX (io) "PB9/TIM4_CH4/SDIO_D5/I2C1_SDA/CAN_TX", 63 VSS_3 (power), 64 VDD_3 (power)
text: STM32F103

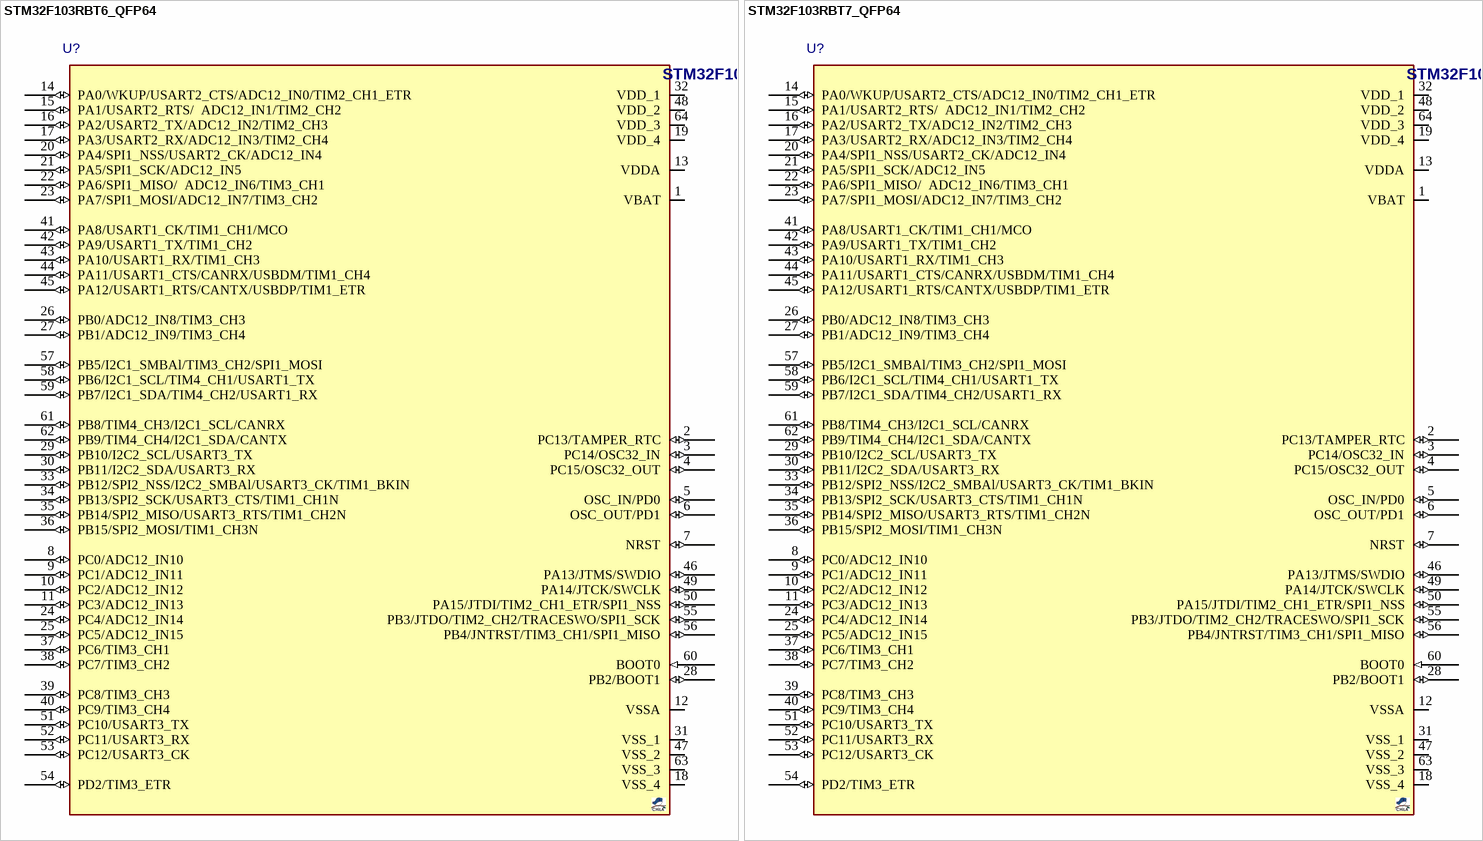
[diagram p7: symbols STM32F103RBT6_QFP64 to STM32F103RBT7_QFP64]